# Altium integrated library Altera MAX 7000S.IntLib: 338 symbols (part 14 of 20)
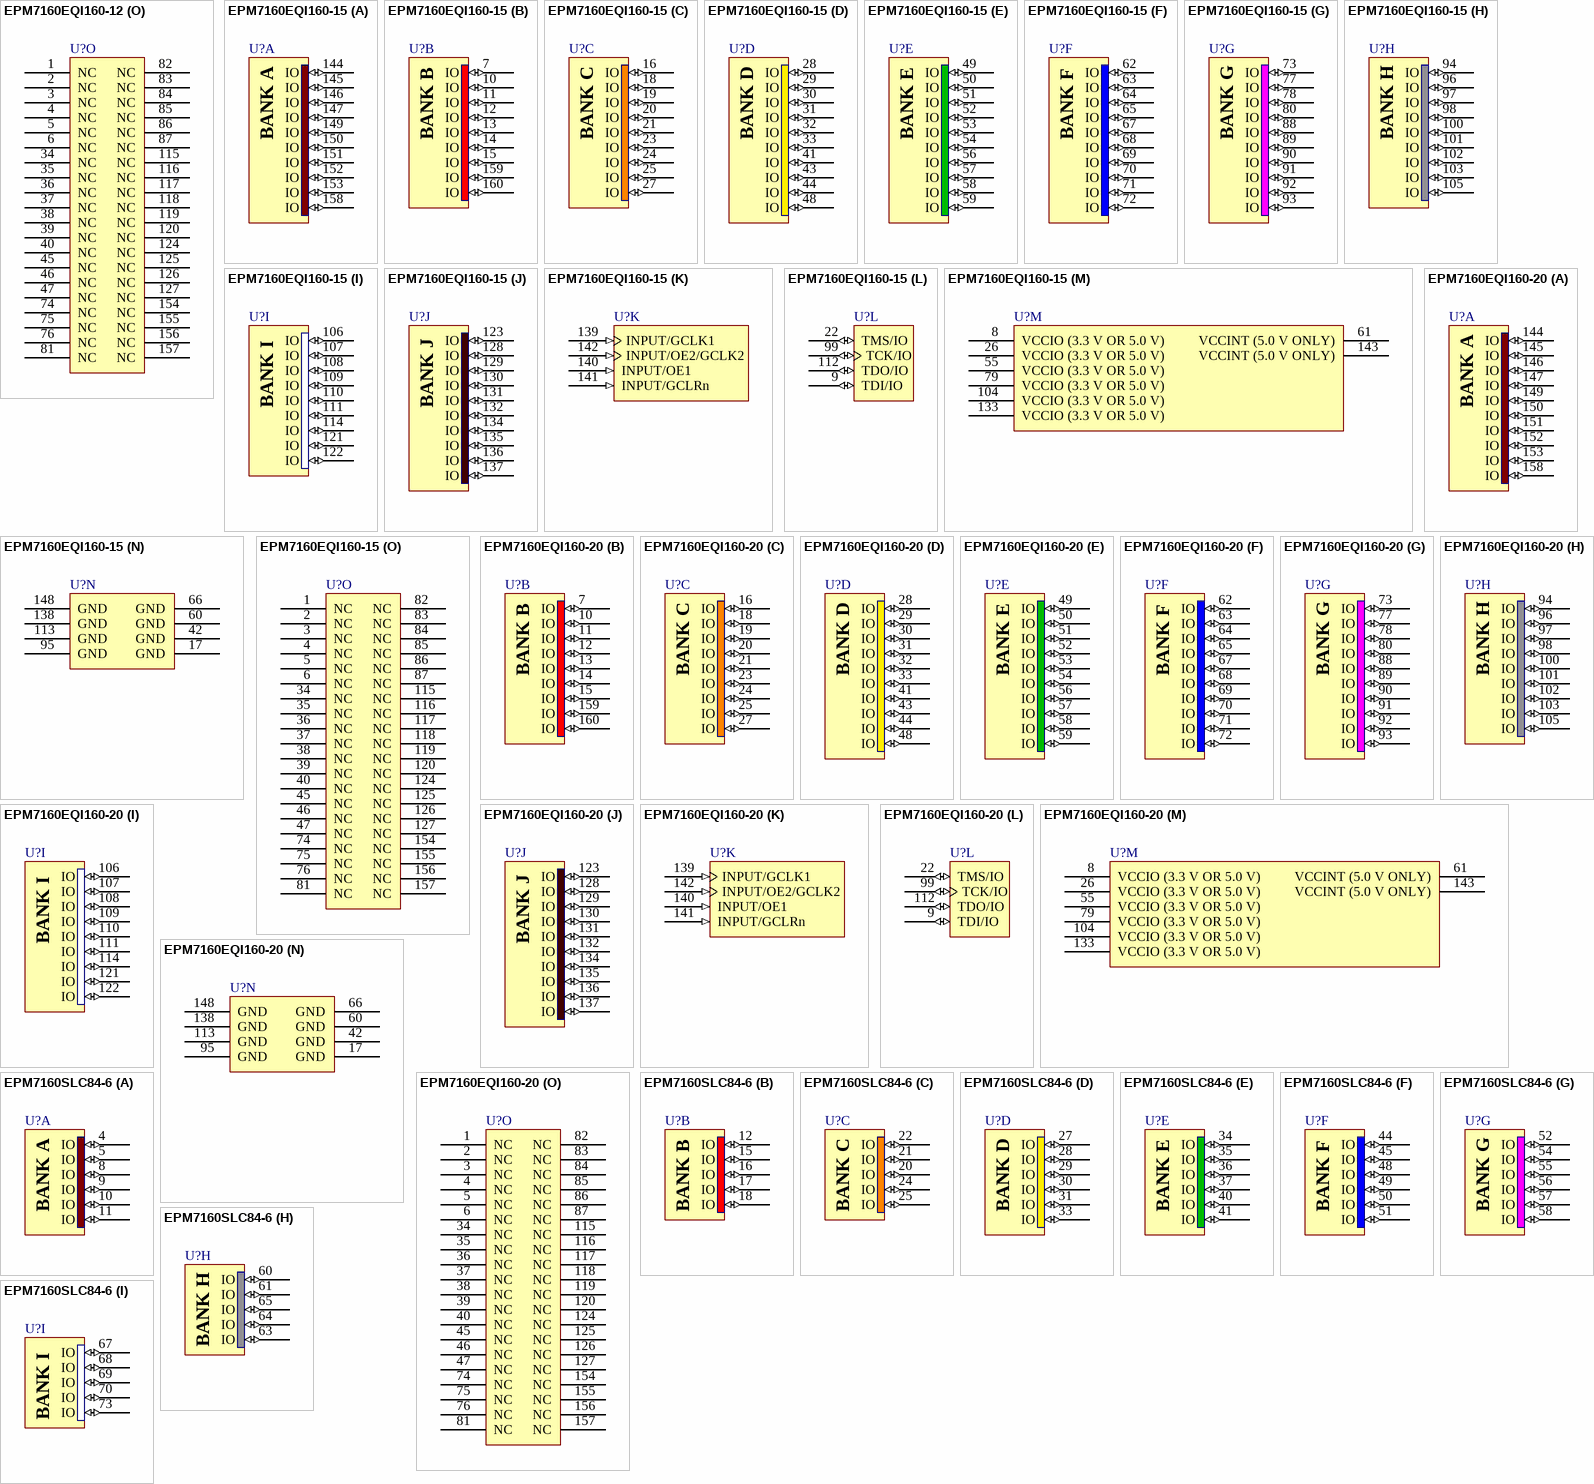
[diagram p117: symbols EPM7160EQI160-12 to EPM7160SLC84-6]

## EPM7160EQI160-15
designator U?
MAX 7000E 5V CPLD, 160 Macrocells, 160-Pin PQFP, Speed Grade 15, Industrial Grade; Published: 17-Jul-2002; LatestRevisionDate: 13-Apr-2006; LatestRevisionNote: IPC-7351 Footprint Added.; DatasheetVersion: ver6.7, Sep-2005; PackageVersion: ver14.3, Jul-2006; PackageReference: PQFP160; Publisher: Altium Limited; PackageDescription: 160-Pin Plastic Quad Flat Pack (PFQP160); Code_JEDEC: MS-022-DD-1; Code_IPC: QFP65P3120X3120-160; ComponentLink1Description: Manufacturer Link; ComponentLink1URL: http://www.altera.com/products/devices/max7k/m7k-index.html; ComponentLink2Description: Datasheet; ComponentLink2URL: http://www.altera.com/literature/ds/m7000.pdf; ComponentLink3Description: Packaging Specification; ComponentLink3URL: http://www.altera.com/literature/ds/dspkg.pdf
footprint PQFP160_N (QFP, 160-Leads, Body 28x28mm, Pitch 0.65mm, IPC Medium Density)
footprint PQFP160_L (QFP, 160-Leads, Body 28x28mm, Pitch 0.65mm, IPC High Density)
footprint PQFP160_M (QFP, 160-Leads, Body 28x28mm, Pitch 0.65mm, IPC Low Density)
3D model EPM7160E-PQFP160 (160-Pin Plastic Quad Flat Pack (PFQP160))
signal-integrity model 7k (MAX 7000S)
part A pins: 144 IO (io), 145 IO (io), 146 IO (io), 147 IO (io), 149 IO (io), 150 IO (io), 151 IO (io), 152 IO (io), 153 IO (io), 158 IO (io)
part B pins: 7 IO (io), 10 IO (io), 11 IO (io), 12 IO (io), 13 IO (io), 14 IO (io), 15 IO (io), 159 IO (io), 160 IO (io)
part C pins: 16 IO (io), 18 IO (io), 19 IO (io), 20 IO (io), 21 IO (io), 23 IO (io), 24 IO (io), 25 IO (io), 27 IO (io)
part D pins: 28 IO (io), 29 IO (io), 30 IO (io), 31 IO (io), 32 IO (io), 33 IO (io), 41 IO (io), 43 IO (io), 44 IO (io), 48 IO (io)
part E pins: 49 IO (io), 50 IO (io), 51 IO (io), 52 IO (io), 53 IO (io), 54 IO (io), 56 IO (io), 57 IO (io), 58 IO (io), 59 IO (io)
part F pins: 62 IO (io), 63 IO (io), 64 IO (io), 65 IO (io), 67 IO (io), 68 IO (io), 69 IO (io), 70 IO (io), 71 IO (io), 72 IO (io)
part G pins: 73 IO (io), 77 IO (io), 78 IO (io), 80 IO (io), 88 IO (io), 89 IO (io), 90 IO (io), 91 IO (io), 92 IO (io), 93 IO (io)
part H pins: 94 IO (io), 96 IO (io), 97 IO (io), 98 IO (io), 100 IO (io), 101 IO (io), 102 IO (io), 103 IO (io), 105 IO (io)
part I pins: 106 IO (io), 107 IO (io), 108 IO (io), 109 IO (io), 110 IO (io), 111 IO (io), 114 IO (io), 121 IO (io), 122 IO (io)
part J pins: 123 IO (io), 128 IO (io), 129 IO (io), 130 IO (io), 131 IO (io), 132 IO (io), 134 IO (io), 135 IO (io), 136 IO (io), 137 IO (io)
part K pins: 139 INPUT/GCLK1 (in), 140 INPUT/OE1 (in), 141 INPUT/GCLRn (in), 142 INPUT/OE2/GCLK2 (in)
part L pins: 9 TDI/IO (io), 22 TMS/IO (io), 99 TCK/IO (io), 112 TDO/IO (io)
part M pins: 8 VCCIO (3.3 V OR 5.0 V) (power), 26 VCCIO (3.3 V OR 5.0 V) (power), 55 VCCIO (3.3 V OR 5.0 V) (power), 61 VCCINT (5.0 V ONLY) (power), 79 VCCIO (3.3 V OR 5.0 V) (power), 104 VCCIO (3.3 V OR 5.0 V) (power), 133 VCCIO (3.3 V OR 5.0 V) (power), 143 VCCINT (5.0 V ONLY) (power)
part N pins: 17 GND (power), 42 GND (power), 60 GND (power), 66 GND (power), 95 GND (power), 113 GND (power), 138 GND (power), 148 GND (power)
part O pins: 1 NC, 2 NC, 3 NC, 4 NC, 5 NC, 6 NC, 34 NC, 35 NC, 36 NC, 37 NC, 38 NC, 39 NC, 40 NC, 45 NC, 46 NC, 47 NC, 74 NC, 75 NC, 76 NC, 81 NC, 82 NC, 83 NC, 84 NC, 85 NC, 86 NC, 87 NC, 115 NC, 116 NC, 117 NC, 118 NC, 119 NC, 120 NC, 124 NC, 125 NC, 126 NC, 127 NC, 154 NC, 155 NC, 156 NC, 157 NC
part A text: BANK A
part B text: BANK B
part C text: BANK C
part D text: BANK D
part E text: BANK E
part F text: BANK F
part G text: BANK G
part H text: BANK H
part I text: BANK I
part J text: BANK J

## EPM7160EQI160-20
designator U?
MAX 7000E 5V CPLD, 160 Macrocells, 160-Pin PQFP, Speed Grade 20, Industrial Grade; Published: 17-Sep-2003; LatestRevisionDate: 13-Apr-2006; LatestRevisionNote: IPC-7351 Footprint Added.; DatasheetVersion: ver6.7, Sep-2005; PackageVersion: ver14.3, Jul-2006; PackageReference: PQFP160; Publisher: Altium Limited; PackageDescription: 160-Pin Plastic Quad Flat Pack (PFQP160); Code_JEDEC: MS-022-DD-1; Code_IPC: QFP65P3120X3120-160; ComponentLink1Description: Manufacturer Link; ComponentLink1URL: http://www.altera.com/products/devices/max7k/m7k-index.html; ComponentLink2Description: Datasheet; ComponentLink2URL: http://www.altera.com/literature/ds/m7000.pdf; ComponentLink3Description: Packaging Specification; ComponentLink3URL: http://www.altera.com/literature/ds/dspkg.pdf
footprint PQFP160_N (QFP, 160-Leads, Body 28x28mm, Pitch 0.65mm, IPC Medium Density)
footprint PQFP160_L (QFP, 160-Leads, Body 28x28mm, Pitch 0.65mm, IPC High Density)
footprint PQFP160_M (QFP, 160-Leads, Body 28x28mm, Pitch 0.65mm, IPC Low Density)
3D model EPM7160E-PQFP160 (160-Pin Plastic Quad Flat Pack (PFQP160))
signal-integrity model 7k (MAX 7000S)
part A pins: 144 IO (io), 145 IO (io), 146 IO (io), 147 IO (io), 149 IO (io), 150 IO (io), 151 IO (io), 152 IO (io), 153 IO (io), 158 IO (io)
part B pins: 7 IO (io), 10 IO (io), 11 IO (io), 12 IO (io), 13 IO (io), 14 IO (io), 15 IO (io), 159 IO (io), 160 IO (io)
part C pins: 16 IO (io), 18 IO (io), 19 IO (io), 20 IO (io), 21 IO (io), 23 IO (io), 24 IO (io), 25 IO (io), 27 IO (io)
part D pins: 28 IO (io), 29 IO (io), 30 IO (io), 31 IO (io), 32 IO (io), 33 IO (io), 41 IO (io), 43 IO (io), 44 IO (io), 48 IO (io)
part E pins: 49 IO (io), 50 IO (io), 51 IO (io), 52 IO (io), 53 IO (io), 54 IO (io), 56 IO (io), 57 IO (io), 58 IO (io), 59 IO (io)
part F pins: 62 IO (io), 63 IO (io), 64 IO (io), 65 IO (io), 67 IO (io), 68 IO (io), 69 IO (io), 70 IO (io), 71 IO (io), 72 IO (io)
part G pins: 73 IO (io), 77 IO (io), 78 IO (io), 80 IO (io), 88 IO (io), 89 IO (io), 90 IO (io), 91 IO (io), 92 IO (io), 93 IO (io)
part H pins: 94 IO (io), 96 IO (io), 97 IO (io), 98 IO (io), 100 IO (io), 101 IO (io), 102 IO (io), 103 IO (io), 105 IO (io)
part I pins: 106 IO (io), 107 IO (io), 108 IO (io), 109 IO (io), 110 IO (io), 111 IO (io), 114 IO (io), 121 IO (io), 122 IO (io)
part J pins: 123 IO (io), 128 IO (io), 129 IO (io), 130 IO (io), 131 IO (io), 132 IO (io), 134 IO (io), 135 IO (io), 136 IO (io), 137 IO (io)
part K pins: 139 INPUT/GCLK1 (in), 140 INPUT/OE1 (in), 141 INPUT/GCLRn (in), 142 INPUT/OE2/GCLK2 (in)
part L pins: 9 TDI/IO (io), 22 TMS/IO (io), 99 TCK/IO (io), 112 TDO/IO (io)
part M pins: 8 VCCIO (3.3 V OR 5.0 V) (power), 26 VCCIO (3.3 V OR 5.0 V) (power), 55 VCCIO (3.3 V OR 5.0 V) (power), 61 VCCINT (5.0 V ONLY) (power), 79 VCCIO (3.3 V OR 5.0 V) (power), 104 VCCIO (3.3 V OR 5.0 V) (power), 133 VCCIO (3.3 V OR 5.0 V) (power), 143 VCCINT (5.0 V ONLY) (power)
part N pins: 17 GND (power), 42 GND (power), 60 GND (power), 66 GND (power), 95 GND (power), 113 GND (power), 138 GND (power), 148 GND (power)
part O pins: 1 NC, 2 NC, 3 NC, 4 NC, 5 NC, 6 NC, 34 NC, 35 NC, 36 NC, 37 NC, 38 NC, 39 NC, 40 NC, 45 NC, 46 NC, 47 NC, 74 NC, 75 NC, 76 NC, 81 NC, 82 NC, 83 NC, 84 NC, 85 NC, 86 NC, 87 NC, 115 NC, 116 NC, 117 NC, 118 NC, 119 NC, 120 NC, 124 NC, 125 NC, 126 NC, 127 NC, 154 NC, 155 NC, 156 NC, 157 NC
part A text: BANK A
part B text: BANK B
part C text: BANK C
part D text: BANK D
part E text: BANK E
part F text: BANK F
part G text: BANK G
part H text: BANK H
part I text: BANK I
part J text: BANK J

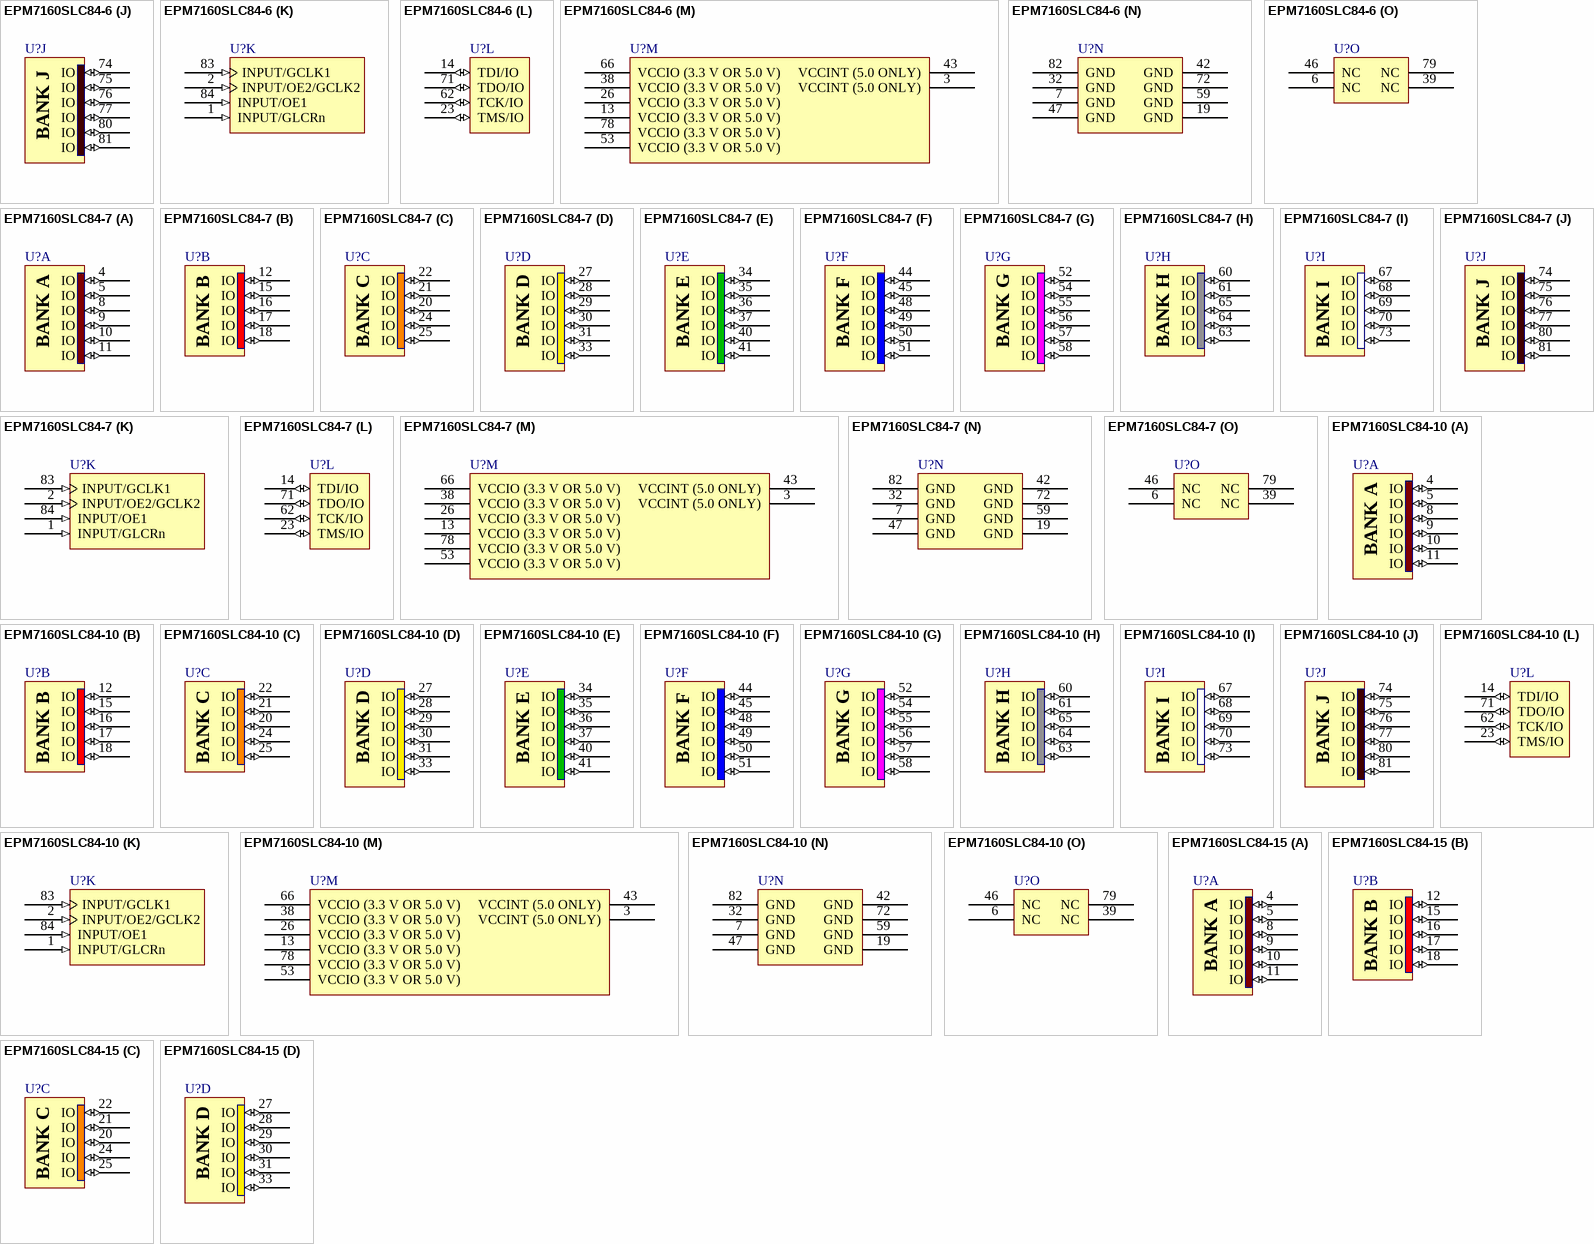
[diagram p68: symbols EPM7160SLC84-6 to EPM7160SLC84-15]

## EPM7160SLC84-6
designator U?
MAX 7000S 5V In-System Programmable CPLD, 160 Macrocells, 84-Pin PLCC, Speed Grade 6, Commercial Grade; Published: 17-Jul-2002; LatestRevisionDate: 13-Apr-2006; LatestRevisionNote: IPC-7351 Footprint Added.; DatasheetVersion: ver6.7, Sep-2005; PackageVersion: ver14.3, Jul-2006; PackageReference: PLCC84; Publisher: Altium Limited; PackageDescription: 84-Pin Plastic J-Lead Chip Carrier (PLCC84); Supplier 1: Digi-Key; Supplier Part Number 1: EPM7160SLC84-6-ND; Code_JEDEC: MS-018-AF; Code_IPC: PLCC-84; ComponentLink1Description: Manufacturer Link; ComponentLink1URL: http://www.altera.com/products/devices/max7k/m7k-index.html; ComponentLink2Description: Datasheet; ComponentLink2URL: http://www.altera.com/literature/ds/m7000.pdf; ComponentLink3Description: Packaging Specification; ComponentLink3URL: http://www.altera.com/literature/ds/dspkg.pdf
footprint PLCC84_N (Leaded Chip Carrier, 84-Leads, Body 29.3x29.3mm, Pitch 1.27mm, IPC Medium Density)
footprint PLCC84_L (Leaded Chip Carrier, 84-Leads, Body 29.3x29.3mm, Pitch 1.27mm, IPC High Density)
footprint PLCC84_M (Leaded Chip Carrier, 84-Leads, Body 29.3x29.3mm, Pitch 1.27mm, IPC Low Density)
3D model EPM7160S-PLCC84 (84-Pin Plastic J-Lead Chip Carrier (PLCC84))
signal-integrity model 7k (MAX 7000S)
part A pins: 4 IO (io), 5 IO (io), 8 IO (io), 9 IO (io), 10 IO (io), 11 IO (io)
part B pins: 12 IO (io), 15 IO (io), 16 IO (io), 17 IO (io), 18 IO (io)
part C pins: 20 IO (io), 21 IO (io), 22 IO (io), 24 IO (io), 25 IO (io)
part D pins: 27 IO (io), 28 IO (io), 29 IO (io), 30 IO (io), 31 IO (io), 33 IO (io)
part E pins: 34 IO (io), 35 IO (io), 36 IO (io), 37 IO (io), 40 IO (io), 41 IO (io)
part F pins: 44 IO (io), 45 IO (io), 48 IO (io), 49 IO (io), 50 IO (io), 51 IO (io)
part G pins: 52 IO (io), 54 IO (io), 55 IO (io), 56 IO (io), 57 IO (io), 58 IO (io)
part H pins: 60 IO (io), 61 IO (io), 63 IO (io), 64 IO (io), 65 IO (io)
part I pins: 67 IO (io), 68 IO (io), 69 IO (io), 70 IO (io), 73 IO (io)
part J pins: 74 IO (io), 75 IO (io), 76 IO (io), 77 IO (io), 80 IO (io), 81 IO (io)
part K pins: 1 INPUT/GLCRn (in), 2 INPUT/OE2/GCLK2 (in), 83 INPUT/GCLK1 (in), 84 INPUT/OE1 (in)
part L pins: 14 TDI/IO (io), 23 TMS/IO (io), 62 TCK/IO (io), 71 TDO/IO (io)
part M pins: 3 VCCINT (5.0 ONLY) (power), 13 VCCIO (3.3 V OR 5.0 V) (power), 26 VCCIO (3.3 V OR 5.0 V) (power), 38 VCCIO (3.3 V OR 5.0 V) (power), 43 VCCINT (5.0 ONLY) (power), 53 VCCIO (3.3 V OR 5.0 V) (power), 66 VCCIO (3.3 V OR 5.0 V) (power), 78 VCCIO (3.3 V OR 5.0 V) (power)
part N pins: 7 GND (power), 19 GND (power), 32 GND (power), 42 GND (power), 47 GND (power), 59 GND (power), 72 GND (power), 82 GND (power)
part O pins: 6 NC, 39 NC, 46 NC, 79 NC
part A text: BANK A
part B text: BANK B
part C text: BANK C
part D text: BANK D
part E text: BANK E
part F text: BANK F
part G text: BANK G
part H text: BANK H
part I text: BANK I
part J text: BANK J

## EPM7160SLC84-7
designator U?
MAX 7000S 5V In-System Programmable CPLD, 160 Macrocells, 84-Pin PLCC, Speed Grade 7, Commercial Grade; Published: 24-Nov-2000; LatestRevisionDate: 13-Apr-2006; LatestRevisionNote: IPC-7351 Footprint Added.; DatasheetVersion: ver6.7, Sep-2005; PackageVersion: ver14.3, Jul-2006; PackageReference: PLCC84; Publisher: Altium Limited; PackageDescription: 84-Pin Plastic J-Lead Chip Carrier (PLCC84); Supplier 1: Digi-Key; Supplier Part Number 1: 544-2047-5-ND; Code_JEDEC: MS-018-AF; Code_IPC: PLCC-84; ComponentLink1Description: Manufacturer Link; ComponentLink1URL: http://www.altera.com/products/devices/max7k/m7k-index.html; ComponentLink2Description: Datasheet; ComponentLink2URL: http://www.altera.com/literature/ds/m7000.pdf; ComponentLink3Description: Packaging Specification; ComponentLink3URL: http://www.altera.com/literature/ds/dspkg.pdf
footprint PLCC84_N (Leaded Chip Carrier, 84-Leads, Body 29.3x29.3mm, Pitch 1.27mm, IPC Medium Density)
footprint PLCC84_L (Leaded Chip Carrier, 84-Leads, Body 29.3x29.3mm, Pitch 1.27mm, IPC High Density)
footprint PLCC84_M (Leaded Chip Carrier, 84-Leads, Body 29.3x29.3mm, Pitch 1.27mm, IPC Low Density)
3D model EPM7160S-PLCC84 (84-Pin Plastic J-Lead Chip Carrier (PLCC84))
signal-integrity model 7k (MAX 7000S)
part A pins: 4 IO (io), 5 IO (io), 8 IO (io), 9 IO (io), 10 IO (io), 11 IO (io)
part B pins: 12 IO (io), 15 IO (io), 16 IO (io), 17 IO (io), 18 IO (io)
part C pins: 20 IO (io), 21 IO (io), 22 IO (io), 24 IO (io), 25 IO (io)
part D pins: 27 IO (io), 28 IO (io), 29 IO (io), 30 IO (io), 31 IO (io), 33 IO (io)
part E pins: 34 IO (io), 35 IO (io), 36 IO (io), 37 IO (io), 40 IO (io), 41 IO (io)
part F pins: 44 IO (io), 45 IO (io), 48 IO (io), 49 IO (io), 50 IO (io), 51 IO (io)
part G pins: 52 IO (io), 54 IO (io), 55 IO (io), 56 IO (io), 57 IO (io), 58 IO (io)
part H pins: 60 IO (io), 61 IO (io), 63 IO (io), 64 IO (io), 65 IO (io)
part I pins: 67 IO (io), 68 IO (io), 69 IO (io), 70 IO (io), 73 IO (io)
part J pins: 74 IO (io), 75 IO (io), 76 IO (io), 77 IO (io), 80 IO (io), 81 IO (io)
part K pins: 1 INPUT/GLCRn (in), 2 INPUT/OE2/GCLK2 (in), 83 INPUT/GCLK1 (in), 84 INPUT/OE1 (in)
part L pins: 14 TDI/IO (io), 23 TMS/IO (io), 62 TCK/IO (io), 71 TDO/IO (io)
part M pins: 3 VCCINT (5.0 ONLY) (power), 13 VCCIO (3.3 V OR 5.0 V) (power), 26 VCCIO (3.3 V OR 5.0 V) (power), 38 VCCIO (3.3 V OR 5.0 V) (power), 43 VCCINT (5.0 ONLY) (power), 53 VCCIO (3.3 V OR 5.0 V) (power), 66 VCCIO (3.3 V OR 5.0 V) (power), 78 VCCIO (3.3 V OR 5.0 V) (power)
part N pins: 7 GND (power), 19 GND (power), 32 GND (power), 42 GND (power), 47 GND (power), 59 GND (power), 72 GND (power), 82 GND (power)
part O pins: 6 NC, 39 NC, 46 NC, 79 NC
part A text: BANK A
part B text: BANK B
part C text: BANK C
part D text: BANK D
part E text: BANK E
part F text: BANK F
part G text: BANK G
part H text: BANK H
part I text: BANK I
part J text: BANK J

## EPM7160SLC84-10
designator U?
MAX 7000S 5V In-System Programmable CPLD, 160 Macrocells, 84-Pin PLCC, Speed Grade 10, Commercial Grade; Published: 24-Nov-2000; LatestRevisionDate: 13-Apr-2006; LatestRevisionNote: IPC-7351 Footprint Added.; DatasheetVersion: ver6.7, Sep-2005; PackageVersion: ver14.3, Jul-2006; PackageReference: PLCC84; Publisher: Altium Limited; PackageDescription: 84-Pin Plastic J-Lead Chip Carrier (PLCC84); Supplier 1: Digi-Key; Supplier Part Number 1: 544-1213-5-ND; Code_JEDEC: MS-018-AF; Code_IPC: PLCC-84; ComponentLink1Description: Manufacturer Link; ComponentLink1URL: http://www.altera.com/products/devices/max7k/m7k-index.html; ComponentLink2Description: Datasheet; ComponentLink2URL: http://www.altera.com/literature/ds/m7000.pdf; ComponentLink3Description: Packaging Specification; ComponentLink3URL: http://www.altera.com/literature/ds/dspkg.pdf
footprint PLCC84_N (Leaded Chip Carrier, 84-Leads, Body 29.3x29.3mm, Pitch 1.27mm, IPC Medium Density)
footprint PLCC84_L (Leaded Chip Carrier, 84-Leads, Body 29.3x29.3mm, Pitch 1.27mm, IPC High Density)
footprint PLCC84_M (Leaded Chip Carrier, 84-Leads, Body 29.3x29.3mm, Pitch 1.27mm, IPC Low Density)
3D model EPM7160S-PLCC84 (84-Pin Plastic J-Lead Chip Carrier (PLCC84))
signal-integrity model 7k (MAX 7000S)
part A pins: 4 IO (io), 5 IO (io), 8 IO (io), 9 IO (io), 10 IO (io), 11 IO (io)
part B pins: 12 IO (io), 15 IO (io), 16 IO (io), 17 IO (io), 18 IO (io)
part C pins: 20 IO (io), 21 IO (io), 22 IO (io), 24 IO (io), 25 IO (io)
part D pins: 27 IO (io), 28 IO (io), 29 IO (io), 30 IO (io), 31 IO (io), 33 IO (io)
part E pins: 34 IO (io), 35 IO (io), 36 IO (io), 37 IO (io), 40 IO (io), 41 IO (io)
part F pins: 44 IO (io), 45 IO (io), 48 IO (io), 49 IO (io), 50 IO (io), 51 IO (io)
part G pins: 52 IO (io), 54 IO (io), 55 IO (io), 56 IO (io), 57 IO (io), 58 IO (io)
part H pins: 60 IO (io), 61 IO (io), 63 IO (io), 64 IO (io), 65 IO (io)
part I pins: 67 IO (io), 68 IO (io), 69 IO (io), 70 IO (io), 73 IO (io)
part J pins: 74 IO (io), 75 IO (io), 76 IO (io), 77 IO (io), 80 IO (io), 81 IO (io)
part K pins: 1 INPUT/GLCRn (in), 2 INPUT/OE2/GCLK2 (in), 83 INPUT/GCLK1 (in), 84 INPUT/OE1 (in)
part L pins: 14 TDI/IO (io), 23 TMS/IO (io), 62 TCK/IO (io), 71 TDO/IO (io)
part M pins: 3 VCCINT (5.0 ONLY) (power), 13 VCCIO (3.3 V OR 5.0 V) (power), 26 VCCIO (3.3 V OR 5.0 V) (power), 38 VCCIO (3.3 V OR 5.0 V) (power), 43 VCCINT (5.0 ONLY) (power), 53 VCCIO (3.3 V OR 5.0 V) (power), 66 VCCIO (3.3 V OR 5.0 V) (power), 78 VCCIO (3.3 V OR 5.0 V) (power)
part N pins: 7 GND (power), 19 GND (power), 32 GND (power), 42 GND (power), 47 GND (power), 59 GND (power), 72 GND (power), 82 GND (power)
part O pins: 6 NC, 39 NC, 46 NC, 79 NC
part A text: BANK A
part B text: BANK B
part C text: BANK C
part D text: BANK D
part E text: BANK E
part F text: BANK F
part G text: BANK G
part H text: BANK H
part I text: BANK I
part J text: BANK J

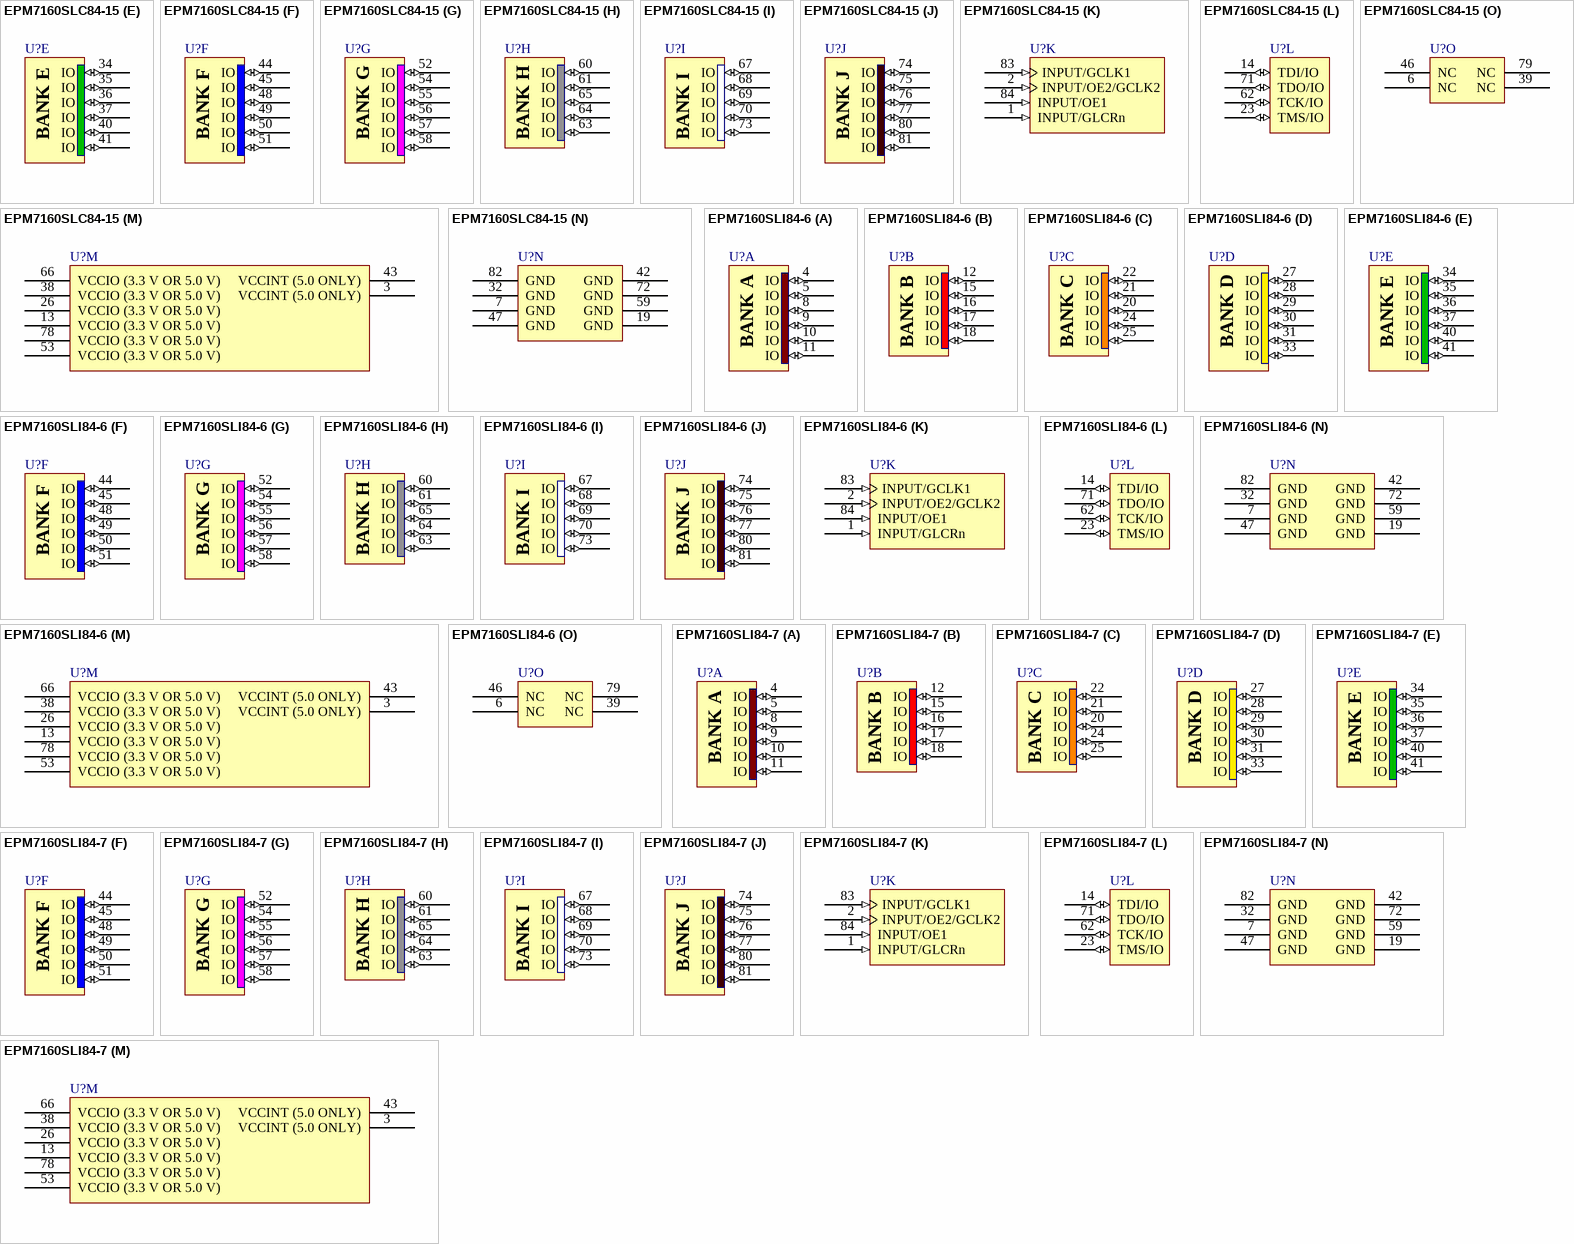
[diagram p69: symbols EPM7160SLC84-15 to EPM7160SLI84-7]

## EPM7160SLC84-15
designator U?
MAX 7000S 5V In-System Programmable CPLD, 160 Macrocells, 84-Pin PLCC, Speed Grade 15, Commercial Grade; Published: 24-Nov-2000; LatestRevisionDate: 13-Apr-2006; LatestRevisionNote: IPC-7351 Footprint Added.; DatasheetVersion: ver6.7, Sep-2005; PackageVersion: ver14.3, Jul-2006; PackageReference: PLCC84; Publisher: Altium Limited; PackageDescription: 84-Pin Plastic J-Lead Chip Carrier (PLCC84); Code_JEDEC: MS-018-AF; Code_IPC: PLCC-84; ComponentLink1Description: Manufacturer Link; ComponentLink1URL: http://www.altera.com/products/devices/max7k/m7k-index.html; ComponentLink2Description: Datasheet; ComponentLink2URL: http://www.altera.com/literature/ds/m7000.pdf; ComponentLink3Description: Packaging Specification; ComponentLink3URL: http://www.altera.com/literature/ds/dspkg.pdf
footprint PLCC84_N (Leaded Chip Carrier, 84-Leads, Body 29.3x29.3mm, Pitch 1.27mm, IPC Medium Density)
footprint PLCC84_L (Leaded Chip Carrier, 84-Leads, Body 29.3x29.3mm, Pitch 1.27mm, IPC High Density)
footprint PLCC84_M (Leaded Chip Carrier, 84-Leads, Body 29.3x29.3mm, Pitch 1.27mm, IPC Low Density)
3D model EPM7160S-PLCC84 (84-Pin Plastic J-Lead Chip Carrier (PLCC84))
signal-integrity model 7k (MAX 7000S)
part A pins: 4 IO (io), 5 IO (io), 8 IO (io), 9 IO (io), 10 IO (io), 11 IO (io)
part B pins: 12 IO (io), 15 IO (io), 16 IO (io), 17 IO (io), 18 IO (io)
part C pins: 20 IO (io), 21 IO (io), 22 IO (io), 24 IO (io), 25 IO (io)
part D pins: 27 IO (io), 28 IO (io), 29 IO (io), 30 IO (io), 31 IO (io), 33 IO (io)
part E pins: 34 IO (io), 35 IO (io), 36 IO (io), 37 IO (io), 40 IO (io), 41 IO (io)
part F pins: 44 IO (io), 45 IO (io), 48 IO (io), 49 IO (io), 50 IO (io), 51 IO (io)
part G pins: 52 IO (io), 54 IO (io), 55 IO (io), 56 IO (io), 57 IO (io), 58 IO (io)
part H pins: 60 IO (io), 61 IO (io), 63 IO (io), 64 IO (io), 65 IO (io)
part I pins: 67 IO (io), 68 IO (io), 69 IO (io), 70 IO (io), 73 IO (io)
part J pins: 74 IO (io), 75 IO (io), 76 IO (io), 77 IO (io), 80 IO (io), 81 IO (io)
part K pins: 1 INPUT/GLCRn (in), 2 INPUT/OE2/GCLK2 (in), 83 INPUT/GCLK1 (in), 84 INPUT/OE1 (in)
part L pins: 14 TDI/IO (io), 23 TMS/IO (io), 62 TCK/IO (io), 71 TDO/IO (io)
part M pins: 3 VCCINT (5.0 ONLY) (power), 13 VCCIO (3.3 V OR 5.0 V) (power), 26 VCCIO (3.3 V OR 5.0 V) (power), 38 VCCIO (3.3 V OR 5.0 V) (power), 43 VCCINT (5.0 ONLY) (power), 53 VCCIO (3.3 V OR 5.0 V) (power), 66 VCCIO (3.3 V OR 5.0 V) (power), 78 VCCIO (3.3 V OR 5.0 V) (power)
part N pins: 7 GND (power), 19 GND (power), 32 GND (power), 42 GND (power), 47 GND (power), 59 GND (power), 72 GND (power), 82 GND (power)
part O pins: 6 NC, 39 NC, 46 NC, 79 NC
part A text: BANK A
part B text: BANK B
part C text: BANK C
part D text: BANK D
part E text: BANK E
part F text: BANK F
part G text: BANK G
part H text: BANK H
part I text: BANK I
part J text: BANK J

## EPM7160SLI84-6
designator U?
MAX 7000S 5V In-System Programmable CPLD, 160 Macrocells, 84-Pin PLCC, Speed Grade 6, Industrial Grade; Published: 17-Sep-2003; LatestRevisionDate: 13-Apr-2006; LatestRevisionNote: IPC-7351 Footprint Added.; DatasheetVersion: ver6.7, Sep-2005; PackageVersion: ver14.3, Jul-2006; PackageReference: PLCC84; Publisher: Altium Limited; PackageDescription: 84-Pin Plastic J-Lead Chip Carrier (PLCC84); Code_JEDEC: MS-018-AF; Code_IPC: PLCC-84; ComponentLink1Description: Manufacturer Link; ComponentLink1URL: http://www.altera.com/products/devices/max7k/m7k-index.html; ComponentLink2Description: Datasheet; ComponentLink2URL: http://www.altera.com/literature/ds/m7000.pdf; ComponentLink3Description: Packaging Specification; ComponentLink3URL: http://www.altera.com/literature/ds/dspkg.pdf
footprint PLCC84_N (Leaded Chip Carrier, 84-Leads, Body 29.3x29.3mm, Pitch 1.27mm, IPC Medium Density)
footprint PLCC84_L (Leaded Chip Carrier, 84-Leads, Body 29.3x29.3mm, Pitch 1.27mm, IPC High Density)
footprint PLCC84_M (Leaded Chip Carrier, 84-Leads, Body 29.3x29.3mm, Pitch 1.27mm, IPC Low Density)
3D model EPM7160S-PLCC84 (84-Pin Plastic J-Lead Chip Carrier (PLCC84))
signal-integrity model 7k (MAX 7000S)
part A pins: 4 IO (io), 5 IO (io), 8 IO (io), 9 IO (io), 10 IO (io), 11 IO (io)
part B pins: 12 IO (io), 15 IO (io), 16 IO (io), 17 IO (io), 18 IO (io)
part C pins: 20 IO (io), 21 IO (io), 22 IO (io), 24 IO (io), 25 IO (io)
part D pins: 27 IO (io), 28 IO (io), 29 IO (io), 30 IO (io), 31 IO (io), 33 IO (io)
part E pins: 34 IO (io), 35 IO (io), 36 IO (io), 37 IO (io), 40 IO (io), 41 IO (io)
part F pins: 44 IO (io), 45 IO (io), 48 IO (io), 49 IO (io), 50 IO (io), 51 IO (io)
part G pins: 52 IO (io), 54 IO (io), 55 IO (io), 56 IO (io), 57 IO (io), 58 IO (io)
part H pins: 60 IO (io), 61 IO (io), 63 IO (io), 64 IO (io), 65 IO (io)
part I pins: 67 IO (io), 68 IO (io), 69 IO (io), 70 IO (io), 73 IO (io)
part J pins: 74 IO (io), 75 IO (io), 76 IO (io), 77 IO (io), 80 IO (io), 81 IO (io)
part K pins: 1 INPUT/GLCRn (in), 2 INPUT/OE2/GCLK2 (in), 83 INPUT/GCLK1 (in), 84 INPUT/OE1 (in)
part L pins: 14 TDI/IO (io), 23 TMS/IO (io), 62 TCK/IO (io), 71 TDO/IO (io)
part M pins: 3 VCCINT (5.0 ONLY) (power), 13 VCCIO (3.3 V OR 5.0 V) (power), 26 VCCIO (3.3 V OR 5.0 V) (power), 38 VCCIO (3.3 V OR 5.0 V) (power), 43 VCCINT (5.0 ONLY) (power), 53 VCCIO (3.3 V OR 5.0 V) (power), 66 VCCIO (3.3 V OR 5.0 V) (power), 78 VCCIO (3.3 V OR 5.0 V) (power)
part N pins: 7 GND (power), 19 GND (power), 32 GND (power), 42 GND (power), 47 GND (power), 59 GND (power), 72 GND (power), 82 GND (power)
part O pins: 6 NC, 39 NC, 46 NC, 79 NC
part A text: BANK A
part B text: BANK B
part C text: BANK C
part D text: BANK D
part E text: BANK E
part F text: BANK F
part G text: BANK G
part H text: BANK H
part I text: BANK I
part J text: BANK J

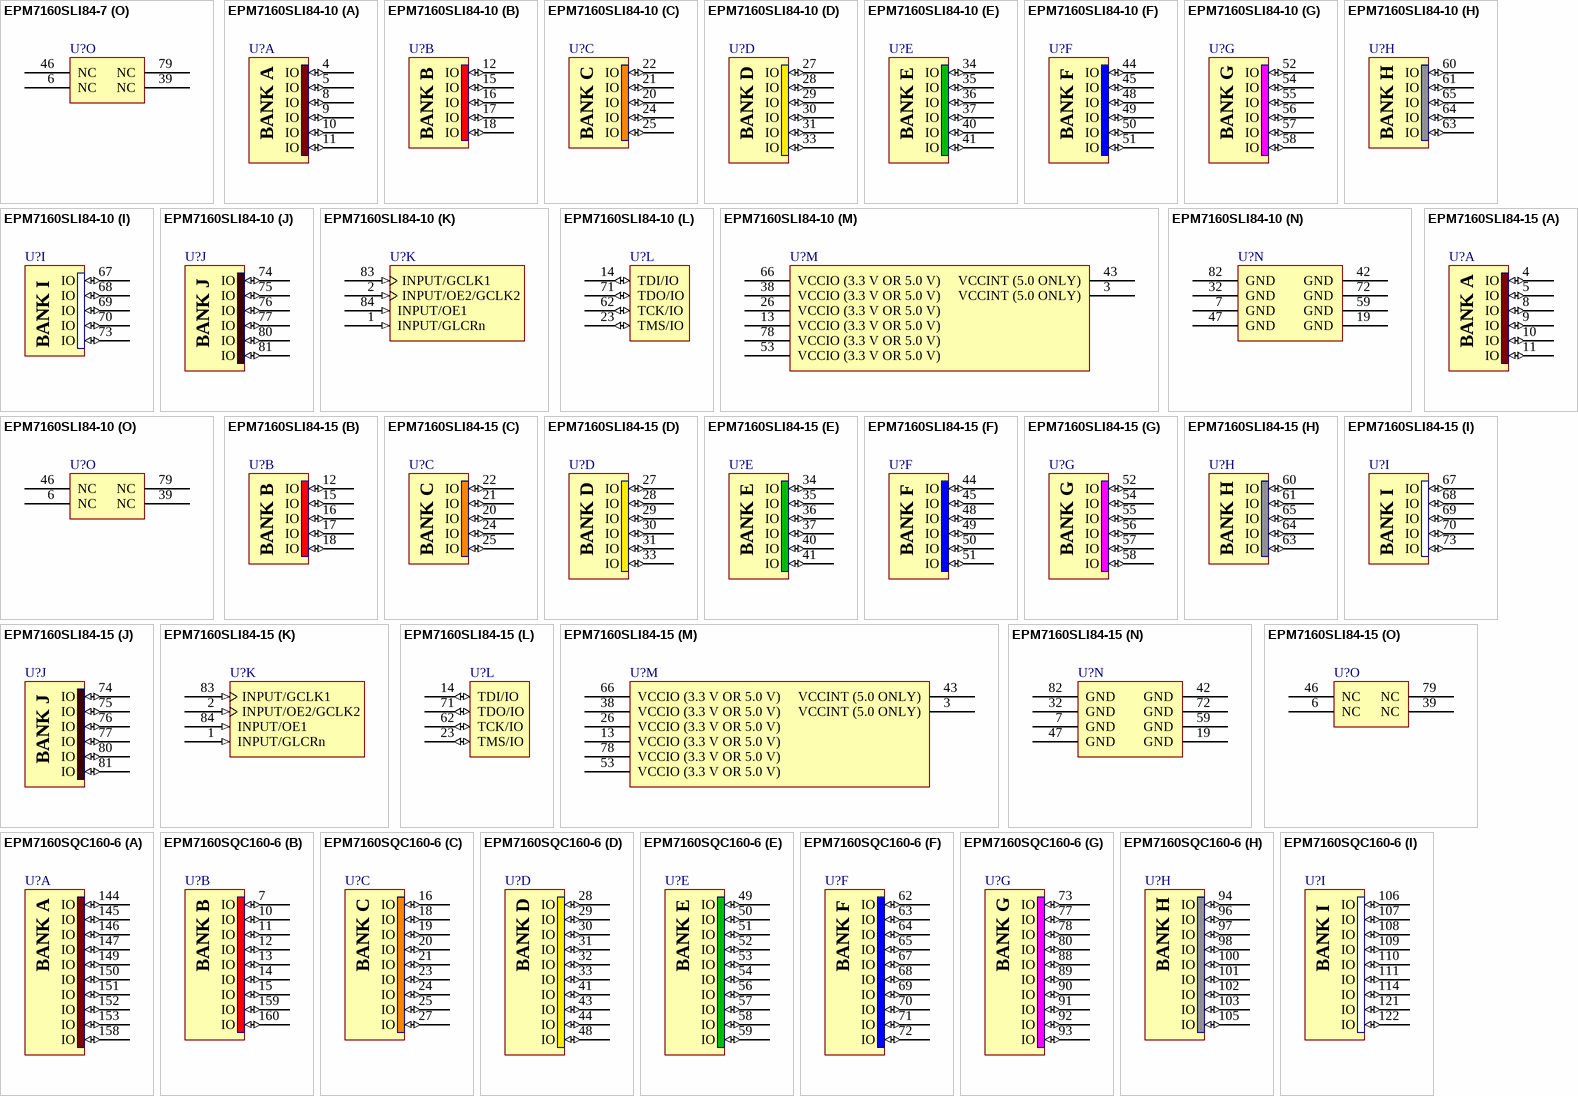
[diagram p70: symbols EPM7160SLI84-7 to EPM7160SQC160-6]

## EPM7160SLI84-7
designator U?
MAX 7000S 5V In-System Programmable CPLD, 160 Macrocells, 84-Pin PLCC, Speed Grade 7, Industrial Grade; Published: 17-Sep-2003; LatestRevisionDate: 13-Apr-2006; LatestRevisionNote: IPC-7351 Footprint Added.; DatasheetVersion: ver6.7, Sep-2005; PackageVersion: ver14.3, Jul-2006; PackageReference: PLCC84; Publisher: Altium Limited; PackageDescription: 84-Pin Plastic J-Lead Chip Carrier (PLCC84); Code_JEDEC: MS-018-AF; Code_IPC: PLCC-84; ComponentLink1Description: Manufacturer Link; ComponentLink1URL: http://www.altera.com/products/devices/max7k/m7k-index.html; ComponentLink2Description: Datasheet; ComponentLink2URL: http://www.altera.com/literature/ds/m7000.pdf; ComponentLink3Description: Packaging Specification; ComponentLink3URL: http://www.altera.com/literature/ds/dspkg.pdf
footprint PLCC84_N (Leaded Chip Carrier, 84-Leads, Body 29.3x29.3mm, Pitch 1.27mm, IPC Medium Density)
footprint PLCC84_L (Leaded Chip Carrier, 84-Leads, Body 29.3x29.3mm, Pitch 1.27mm, IPC High Density)
footprint PLCC84_M (Leaded Chip Carrier, 84-Leads, Body 29.3x29.3mm, Pitch 1.27mm, IPC Low Density)
3D model EPM7160S-PLCC84 (84-Pin Plastic J-Lead Chip Carrier (PLCC84))
signal-integrity model 7k (MAX 7000S)
part A pins: 4 IO (io), 5 IO (io), 8 IO (io), 9 IO (io), 10 IO (io), 11 IO (io)
part B pins: 12 IO (io), 15 IO (io), 16 IO (io), 17 IO (io), 18 IO (io)
part C pins: 20 IO (io), 21 IO (io), 22 IO (io), 24 IO (io), 25 IO (io)
part D pins: 27 IO (io), 28 IO (io), 29 IO (io), 30 IO (io), 31 IO (io), 33 IO (io)
part E pins: 34 IO (io), 35 IO (io), 36 IO (io), 37 IO (io), 40 IO (io), 41 IO (io)
part F pins: 44 IO (io), 45 IO (io), 48 IO (io), 49 IO (io), 50 IO (io), 51 IO (io)
part G pins: 52 IO (io), 54 IO (io), 55 IO (io), 56 IO (io), 57 IO (io), 58 IO (io)
part H pins: 60 IO (io), 61 IO (io), 63 IO (io), 64 IO (io), 65 IO (io)
part I pins: 67 IO (io), 68 IO (io), 69 IO (io), 70 IO (io), 73 IO (io)
part J pins: 74 IO (io), 75 IO (io), 76 IO (io), 77 IO (io), 80 IO (io), 81 IO (io)
part K pins: 1 INPUT/GLCRn (in), 2 INPUT/OE2/GCLK2 (in), 83 INPUT/GCLK1 (in), 84 INPUT/OE1 (in)
part L pins: 14 TDI/IO (io), 23 TMS/IO (io), 62 TCK/IO (io), 71 TDO/IO (io)
part M pins: 3 VCCINT (5.0 ONLY) (power), 13 VCCIO (3.3 V OR 5.0 V) (power), 26 VCCIO (3.3 V OR 5.0 V) (power), 38 VCCIO (3.3 V OR 5.0 V) (power), 43 VCCINT (5.0 ONLY) (power), 53 VCCIO (3.3 V OR 5.0 V) (power), 66 VCCIO (3.3 V OR 5.0 V) (power), 78 VCCIO (3.3 V OR 5.0 V) (power)
part N pins: 7 GND (power), 19 GND (power), 32 GND (power), 42 GND (power), 47 GND (power), 59 GND (power), 72 GND (power), 82 GND (power)
part O pins: 6 NC, 39 NC, 46 NC, 79 NC
part A text: BANK A
part B text: BANK B
part C text: BANK C
part D text: BANK D
part E text: BANK E
part F text: BANK F
part G text: BANK G
part H text: BANK H
part I text: BANK I
part J text: BANK J

## EPM7160SLI84-10
designator U?
MAX 7000S 5V In-System Programmable CPLD, 160 Macrocells, 84-Pin PLCC, Speed Grade 10, Industrial Grade; Published: 24-Nov-2000; LatestRevisionDate: 13-Apr-2006; LatestRevisionNote: IPC-7351 Footprint Added.; DatasheetVersion: ver6.7, Sep-2005; PackageVersion: ver14.3, Jul-2006; PackageReference: PLCC84; Publisher: Altium Limited; PackageDescription: 84-Pin Plastic J-Lead Chip Carrier (PLCC84); Supplier 1: Digi-Key; Supplier Part Number 1: 544-2048-ND; Code_JEDEC: MS-018-AF; Code_IPC: PLCC-84; ComponentLink1Description: Manufacturer Link; ComponentLink1URL: http://www.altera.com/products/devices/max7k/m7k-index.html; ComponentLink2Description: Datasheet; ComponentLink2URL: http://www.altera.com/literature/ds/m7000.pdf; ComponentLink3Description: Packaging Specification; ComponentLink3URL: http://www.altera.com/literature/ds/dspkg.pdf
footprint PLCC84_N (Leaded Chip Carrier, 84-Leads, Body 29.3x29.3mm, Pitch 1.27mm, IPC Medium Density)
footprint PLCC84_L (Leaded Chip Carrier, 84-Leads, Body 29.3x29.3mm, Pitch 1.27mm, IPC High Density)
footprint PLCC84_M (Leaded Chip Carrier, 84-Leads, Body 29.3x29.3mm, Pitch 1.27mm, IPC Low Density)
3D model EPM7160S-PLCC84 (84-Pin Plastic J-Lead Chip Carrier (PLCC84))
signal-integrity model 7k (MAX 7000S)
part A pins: 4 IO (io), 5 IO (io), 8 IO (io), 9 IO (io), 10 IO (io), 11 IO (io)
part B pins: 12 IO (io), 15 IO (io), 16 IO (io), 17 IO (io), 18 IO (io)
part C pins: 20 IO (io), 21 IO (io), 22 IO (io), 24 IO (io), 25 IO (io)
part D pins: 27 IO (io), 28 IO (io), 29 IO (io), 30 IO (io), 31 IO (io), 33 IO (io)
part E pins: 34 IO (io), 35 IO (io), 36 IO (io), 37 IO (io), 40 IO (io), 41 IO (io)
part F pins: 44 IO (io), 45 IO (io), 48 IO (io), 49 IO (io), 50 IO (io), 51 IO (io)
part G pins: 52 IO (io), 54 IO (io), 55 IO (io), 56 IO (io), 57 IO (io), 58 IO (io)
part H pins: 60 IO (io), 61 IO (io), 63 IO (io), 64 IO (io), 65 IO (io)
part I pins: 67 IO (io), 68 IO (io), 69 IO (io), 70 IO (io), 73 IO (io)
part J pins: 74 IO (io), 75 IO (io), 76 IO (io), 77 IO (io), 80 IO (io), 81 IO (io)
part K pins: 1 INPUT/GLCRn (in), 2 INPUT/OE2/GCLK2 (in), 83 INPUT/GCLK1 (in), 84 INPUT/OE1 (in)
part L pins: 14 TDI/IO (io), 23 TMS/IO (io), 62 TCK/IO (io), 71 TDO/IO (io)
part M pins: 3 VCCINT (5.0 ONLY) (power), 13 VCCIO (3.3 V OR 5.0 V) (power), 26 VCCIO (3.3 V OR 5.0 V) (power), 38 VCCIO (3.3 V OR 5.0 V) (power), 43 VCCINT (5.0 ONLY) (power), 53 VCCIO (3.3 V OR 5.0 V) (power), 66 VCCIO (3.3 V OR 5.0 V) (power), 78 VCCIO (3.3 V OR 5.0 V) (power)
part N pins: 7 GND (power), 19 GND (power), 32 GND (power), 42 GND (power), 47 GND (power), 59 GND (power), 72 GND (power), 82 GND (power)
part O pins: 6 NC, 39 NC, 46 NC, 79 NC
part A text: BANK A
part B text: BANK B
part C text: BANK C
part D text: BANK D
part E text: BANK E
part F text: BANK F
part G text: BANK G
part H text: BANK H
part I text: BANK I
part J text: BANK J

## EPM7160SLI84-15
designator U?
MAX 7000S 5V In-System Programmable CPLD, 160 Macrocells, 84-Pin PLCC, Speed Grade 15, Industrial Grade; Published: 24-Nov-2000; LatestRevisionDate: 13-Apr-2006; LatestRevisionNote: IPC-7351 Footprint Added.; DatasheetVersion: ver6.7, Sep-2005; PackageVersion: ver14.3, Jul-2006; PackageReference: PLCC84; Publisher: Altium Limited; PackageDescription: 84-Pin Plastic J-Lead Chip Carrier (PLCC84); Code_JEDEC: MS-018-AF; Code_IPC: PLCC-84; ComponentLink1Description: Manufacturer Link; ComponentLink1URL: http://www.altera.com/products/devices/max7k/m7k-index.html; ComponentLink2Description: Datasheet; ComponentLink2URL: http://www.altera.com/literature/ds/m7000.pdf; ComponentLink3Description: Packaging Specification; ComponentLink3URL: http://www.altera.com/literature/ds/dspkg.pdf
footprint PLCC84_N (Leaded Chip Carrier, 84-Leads, Body 29.3x29.3mm, Pitch 1.27mm, IPC Medium Density)
footprint PLCC84_L (Leaded Chip Carrier, 84-Leads, Body 29.3x29.3mm, Pitch 1.27mm, IPC High Density)
footprint PLCC84_M (Leaded Chip Carrier, 84-Leads, Body 29.3x29.3mm, Pitch 1.27mm, IPC Low Density)
3D model EPM7160S-PLCC84 (84-Pin Plastic J-Lead Chip Carrier (PLCC84))
signal-integrity model 7k (MAX 7000S)
part A pins: 4 IO (io), 5 IO (io), 8 IO (io), 9 IO (io), 10 IO (io), 11 IO (io)
part B pins: 12 IO (io), 15 IO (io), 16 IO (io), 17 IO (io), 18 IO (io)
part C pins: 20 IO (io), 21 IO (io), 22 IO (io), 24 IO (io), 25 IO (io)
part D pins: 27 IO (io), 28 IO (io), 29 IO (io), 30 IO (io), 31 IO (io), 33 IO (io)
part E pins: 34 IO (io), 35 IO (io), 36 IO (io), 37 IO (io), 40 IO (io), 41 IO (io)
part F pins: 44 IO (io), 45 IO (io), 48 IO (io), 49 IO (io), 50 IO (io), 51 IO (io)
part G pins: 52 IO (io), 54 IO (io), 55 IO (io), 56 IO (io), 57 IO (io), 58 IO (io)
part H pins: 60 IO (io), 61 IO (io), 63 IO (io), 64 IO (io), 65 IO (io)
part I pins: 67 IO (io), 68 IO (io), 69 IO (io), 70 IO (io), 73 IO (io)
part J pins: 74 IO (io), 75 IO (io), 76 IO (io), 77 IO (io), 80 IO (io), 81 IO (io)
part K pins: 1 INPUT/GLCRn (in), 2 INPUT/OE2/GCLK2 (in), 83 INPUT/GCLK1 (in), 84 INPUT/OE1 (in)
part L pins: 14 TDI/IO (io), 23 TMS/IO (io), 62 TCK/IO (io), 71 TDO/IO (io)
part M pins: 3 VCCINT (5.0 ONLY) (power), 13 VCCIO (3.3 V OR 5.0 V) (power), 26 VCCIO (3.3 V OR 5.0 V) (power), 38 VCCIO (3.3 V OR 5.0 V) (power), 43 VCCINT (5.0 ONLY) (power), 53 VCCIO (3.3 V OR 5.0 V) (power), 66 VCCIO (3.3 V OR 5.0 V) (power), 78 VCCIO (3.3 V OR 5.0 V) (power)
part N pins: 7 GND (power), 19 GND (power), 32 GND (power), 42 GND (power), 47 GND (power), 59 GND (power), 72 GND (power), 82 GND (power)
part O pins: 6 NC, 39 NC, 46 NC, 79 NC
part A text: BANK A
part B text: BANK B
part C text: BANK C
part D text: BANK D
part E text: BANK E
part F text: BANK F
part G text: BANK G
part H text: BANK H
part I text: BANK I
part J text: BANK J

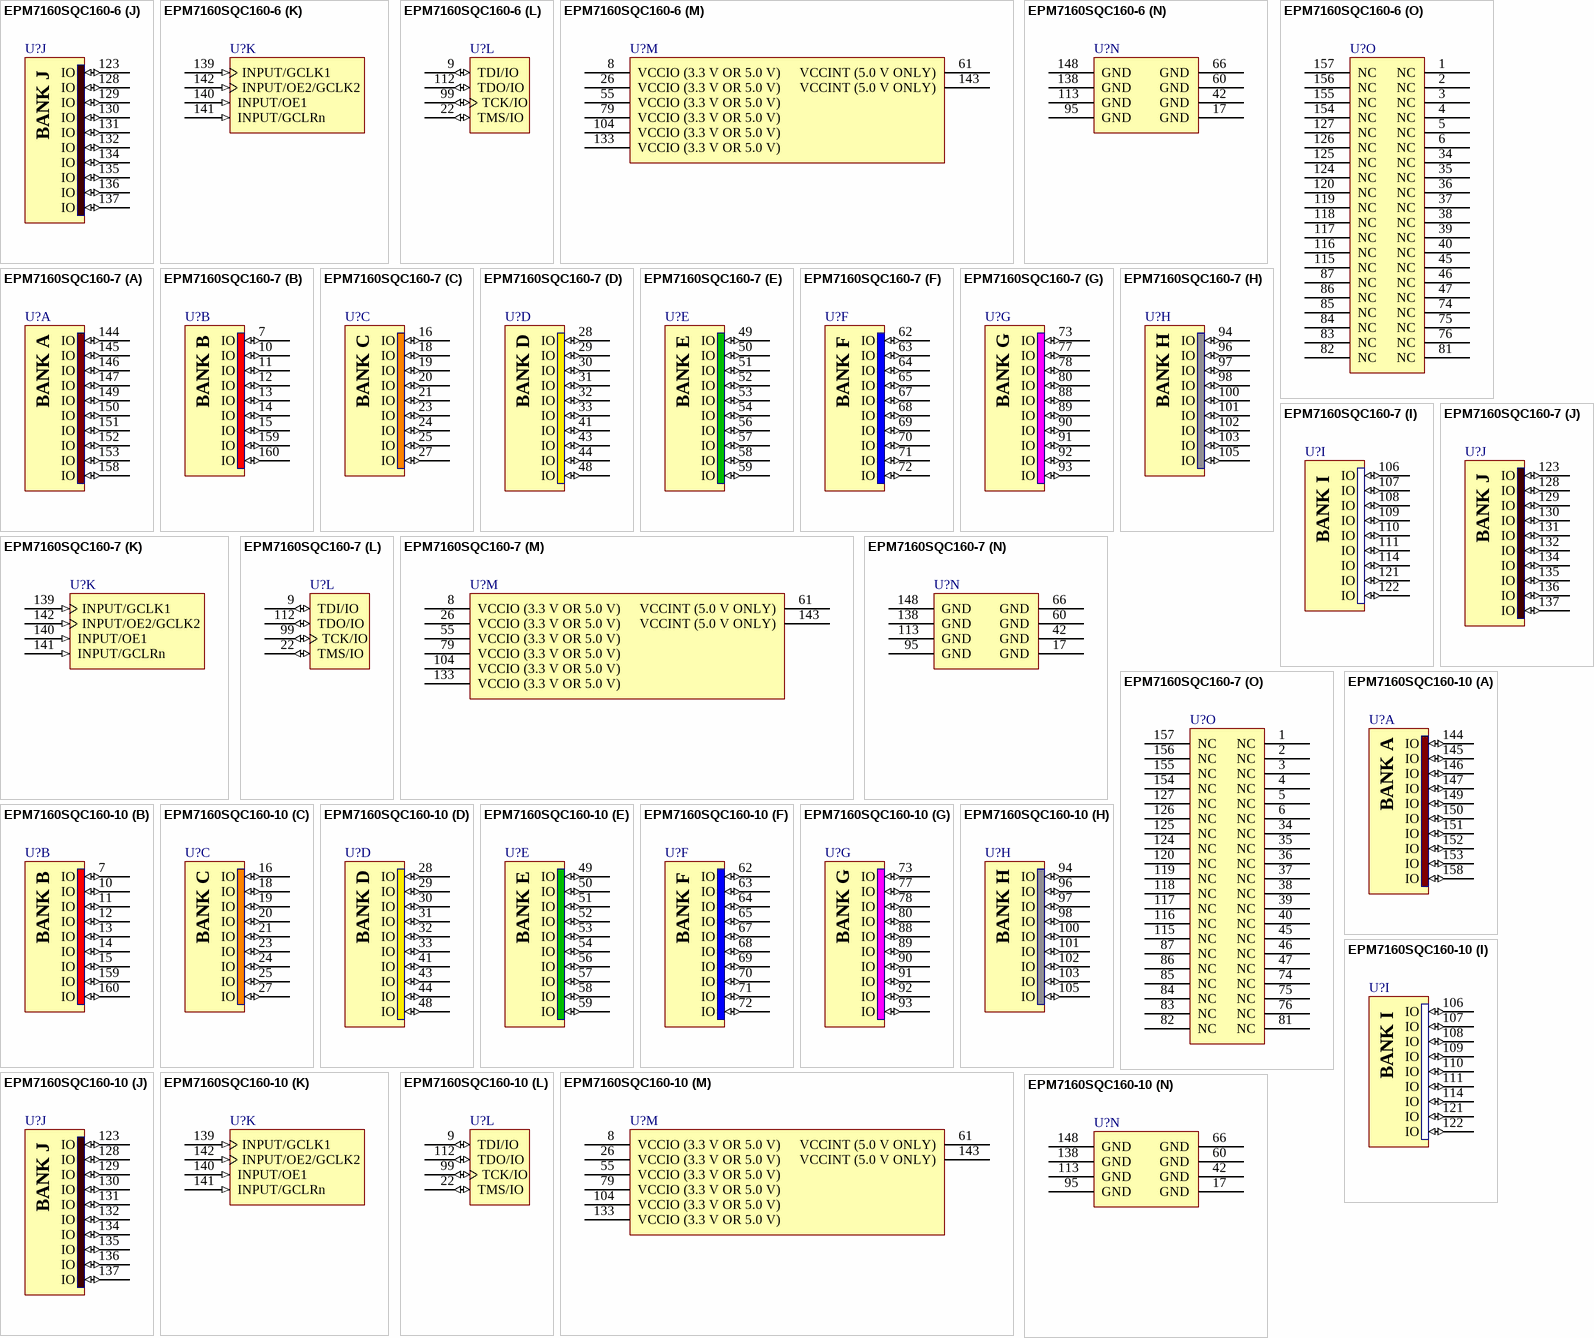
[diagram p71: symbols EPM7160SQC160-6 to EPM7160SQC160-10]

## EPM7160SQC160-6
designator U?
MAX 7000S 5V In-System Programmable CPLD, 160 Macrocells, 160-Pin PQFP, Speed Grade 6, Commercial Grade; Published: 17-Jul-2002; LatestRevisionDate: 13-Apr-2006; LatestRevisionNote: IPC-7351 Footprint Added.; DatasheetVersion: ver6.7, Sep-2005; PackageVersion: ver14.3, Jul-2006; PackageReference: PQFP160; Publisher: Altium Limited; PackageDescription: 160-Pin Plastic Quad Flat Pack (PFQP160); Supplier 1: Digi-Key; Supplier Part Number 1: EPM7160SQC160-6-ND; Code_JEDEC: MS-022-DD-1; Code_IPC: QFP65P3120X3120-160; ComponentLink1Description: Manufacturer Link; ComponentLink1URL: http://www.altera.com/products/devices/max7k/m7k-index.html; ComponentLink2Description: Datasheet; ComponentLink2URL: http://www.altera.com/literature/ds/m7000.pdf; ComponentLink3Description: Packaging Specification; ComponentLink3URL: http://www.altera.com/literature/ds/dspkg.pdf
footprint PQFP160_N (QFP, 160-Leads, Body 28x28mm, Pitch 0.65mm, IPC Medium Density)
footprint PQFP160_L (QFP, 160-Leads, Body 28x28mm, Pitch 0.65mm, IPC High Density)
footprint PQFP160_M (QFP, 160-Leads, Body 28x28mm, Pitch 0.65mm, IPC Low Density)
3D model EPM7160S-PQFP160 (160-Pin Plastic Quad Flat Pack (PFQP160))
signal-integrity model 7k (MAX 7000S)
part A pins: 144 IO (io), 145 IO (io), 146 IO (io), 147 IO (io), 149 IO (io), 150 IO (io), 151 IO (io), 152 IO (io), 153 IO (io), 158 IO (io)
part B pins: 7 IO (io), 10 IO (io), 11 IO (io), 12 IO (io), 13 IO (io), 14 IO (io), 15 IO (io), 159 IO (io), 160 IO (io)
part C pins: 16 IO (io), 18 IO (io), 19 IO (io), 20 IO (io), 21 IO (io), 23 IO (io), 24 IO (io), 25 IO (io), 27 IO (io)
part D pins: 28 IO (io), 29 IO (io), 30 IO (io), 31 IO (io), 32 IO (io), 33 IO (io), 41 IO (io), 43 IO (io), 44 IO (io), 48 IO (io)
part E pins: 49 IO (io), 50 IO (io), 51 IO (io), 52 IO (io), 53 IO (io), 54 IO (io), 56 IO (io), 57 IO (io), 58 IO (io), 59 IO (io)
part F pins: 62 IO (io), 63 IO (io), 64 IO (io), 65 IO (io), 67 IO (io), 68 IO (io), 69 IO (io), 70 IO (io), 71 IO (io), 72 IO (io)
part G pins: 73 IO (io), 77 IO (io), 78 IO (io), 80 IO (io), 88 IO (io), 89 IO (io), 90 IO (io), 91 IO (io), 92 IO (io), 93 IO (io)
part H pins: 94 IO (io), 96 IO (io), 97 IO (io), 98 IO (io), 100 IO (io), 101 IO (io), 102 IO (io), 103 IO (io), 105 IO (io)
part I pins: 106 IO (io), 107 IO (io), 108 IO (io), 109 IO (io), 110 IO (io), 111 IO (io), 114 IO (io), 121 IO (io), 122 IO (io)
part J pins: 123 IO (io), 128 IO (io), 129 IO (io), 130 IO (io), 131 IO (io), 132 IO (io), 134 IO (io), 135 IO (io), 136 IO (io), 137 IO (io)
part K pins: 139 INPUT/GCLK1 (in), 140 INPUT/OE1 (in), 141 INPUT/GCLRn (in), 142 INPUT/OE2/GCLK2 (in)
part L pins: 9 TDI/IO (io), 22 TMS/IO (io), 99 TCK/IO (io), 112 TDO/IO (io)
part M pins: 8 VCCIO (3.3 V OR 5.0 V) (power), 26 VCCIO (3.3 V OR 5.0 V) (power), 55 VCCIO (3.3 V OR 5.0 V) (power), 61 VCCINT (5.0 V ONLY) (power), 79 VCCIO (3.3 V OR 5.0 V) (power), 104 VCCIO (3.3 V OR 5.0 V) (power), 133 VCCIO (3.3 V OR 5.0 V) (power), 143 VCCINT (5.0 V ONLY) (power)
part N pins: 17 GND (power), 42 GND (power), 60 GND (power), 66 GND (power), 95 GND (power), 113 GND (power), 138 GND (power), 148 GND (power)
part O pins: 1 NC, 2 NC, 3 NC, 4 NC, 5 NC, 6 NC, 34 NC, 35 NC, 36 NC, 37 NC, 38 NC, 39 NC, 40 NC, 45 NC, 46 NC, 47 NC, 74 NC, 75 NC, 76 NC, 81 NC, 82 NC, 83 NC, 84 NC, 85 NC, 86 NC, 87 NC, 115 NC, 116 NC, 117 NC, 118 NC, 119 NC, 120 NC, 124 NC, 125 NC, 126 NC, 127 NC, 154 NC, 155 NC, 156 NC, 157 NC
part A text: BANK A
part B text: BANK B
part C text: BANK C
part D text: BANK D
part E text: BANK E
part F text: BANK F
part G text: BANK G
part H text: BANK H
part I text: BANK I
part J text: BANK J

## EPM7160SQC160-7
designator U?
MAX 7000S 5V In-System Programmable CPLD, 160 Macrocells, 160-Pin PQFP, Speed Grade 7, Commercial Grade; Published: 17-Jul-2002; LatestRevisionDate: 13-Apr-2006; LatestRevisionNote: IPC-7351 Footprint Added.; DatasheetVersion: ver6.7, Sep-2005; PackageVersion: ver14.3, Jul-2006; PackageReference: PQFP160; Publisher: Altium Limited; PackageDescription: 160-Pin Plastic Quad Flat Pack (PFQP160); Code_JEDEC: MS-022-DD-1; Code_IPC: QFP65P3120X3120-160; ComponentLink1Description: Manufacturer Link; ComponentLink1URL: http://www.altera.com/products/devices/max7k/m7k-index.html; ComponentLink2Description: Datasheet; ComponentLink2URL: http://www.altera.com/literature/ds/m7000.pdf; ComponentLink3Description: Packaging Specification; ComponentLink3URL: http://www.altera.com/literature/ds/dspkg.pdf
footprint PQFP160_N (QFP, 160-Leads, Body 28x28mm, Pitch 0.65mm, IPC Medium Density)
footprint PQFP160_L (QFP, 160-Leads, Body 28x28mm, Pitch 0.65mm, IPC High Density)
footprint PQFP160_M (QFP, 160-Leads, Body 28x28mm, Pitch 0.65mm, IPC Low Density)
3D model EPM7160S-PQFP160 (160-Pin Plastic Quad Flat Pack (PFQP160))
signal-integrity model 7k (MAX 7000S)
part A pins: 144 IO (io), 145 IO (io), 146 IO (io), 147 IO (io), 149 IO (io), 150 IO (io), 151 IO (io), 152 IO (io), 153 IO (io), 158 IO (io)
part B pins: 7 IO (io), 10 IO (io), 11 IO (io), 12 IO (io), 13 IO (io), 14 IO (io), 15 IO (io), 159 IO (io), 160 IO (io)
part C pins: 16 IO (io), 18 IO (io), 19 IO (io), 20 IO (io), 21 IO (io), 23 IO (io), 24 IO (io), 25 IO (io), 27 IO (io)
part D pins: 28 IO (io), 29 IO (io), 30 IO (io), 31 IO (io), 32 IO (io), 33 IO (io), 41 IO (io), 43 IO (io), 44 IO (io), 48 IO (io)
part E pins: 49 IO (io), 50 IO (io), 51 IO (io), 52 IO (io), 53 IO (io), 54 IO (io), 56 IO (io), 57 IO (io), 58 IO (io), 59 IO (io)
part F pins: 62 IO (io), 63 IO (io), 64 IO (io), 65 IO (io), 67 IO (io), 68 IO (io), 69 IO (io), 70 IO (io), 71 IO (io), 72 IO (io)
part G pins: 73 IO (io), 77 IO (io), 78 IO (io), 80 IO (io), 88 IO (io), 89 IO (io), 90 IO (io), 91 IO (io), 92 IO (io), 93 IO (io)
part H pins: 94 IO (io), 96 IO (io), 97 IO (io), 98 IO (io), 100 IO (io), 101 IO (io), 102 IO (io), 103 IO (io), 105 IO (io)
part I pins: 106 IO (io), 107 IO (io), 108 IO (io), 109 IO (io), 110 IO (io), 111 IO (io), 114 IO (io), 121 IO (io), 122 IO (io)
part J pins: 123 IO (io), 128 IO (io), 129 IO (io), 130 IO (io), 131 IO (io), 132 IO (io), 134 IO (io), 135 IO (io), 136 IO (io), 137 IO (io)
part K pins: 139 INPUT/GCLK1 (in), 140 INPUT/OE1 (in), 141 INPUT/GCLRn (in), 142 INPUT/OE2/GCLK2 (in)
part L pins: 9 TDI/IO (io), 22 TMS/IO (io), 99 TCK/IO (io), 112 TDO/IO (io)
part M pins: 8 VCCIO (3.3 V OR 5.0 V) (power), 26 VCCIO (3.3 V OR 5.0 V) (power), 55 VCCIO (3.3 V OR 5.0 V) (power), 61 VCCINT (5.0 V ONLY) (power), 79 VCCIO (3.3 V OR 5.0 V) (power), 104 VCCIO (3.3 V OR 5.0 V) (power), 133 VCCIO (3.3 V OR 5.0 V) (power), 143 VCCINT (5.0 V ONLY) (power)
part N pins: 17 GND (power), 42 GND (power), 60 GND (power), 66 GND (power), 95 GND (power), 113 GND (power), 138 GND (power), 148 GND (power)
part O pins: 1 NC, 2 NC, 3 NC, 4 NC, 5 NC, 6 NC, 34 NC, 35 NC, 36 NC, 37 NC, 38 NC, 39 NC, 40 NC, 45 NC, 46 NC, 47 NC, 74 NC, 75 NC, 76 NC, 81 NC, 82 NC, 83 NC, 84 NC, 85 NC, 86 NC, 87 NC, 115 NC, 116 NC, 117 NC, 118 NC, 119 NC, 120 NC, 124 NC, 125 NC, 126 NC, 127 NC, 154 NC, 155 NC, 156 NC, 157 NC
part A text: BANK A
part B text: BANK B
part C text: BANK C
part D text: BANK D
part E text: BANK E
part F text: BANK F
part G text: BANK G
part H text: BANK H
part I text: BANK I
part J text: BANK J

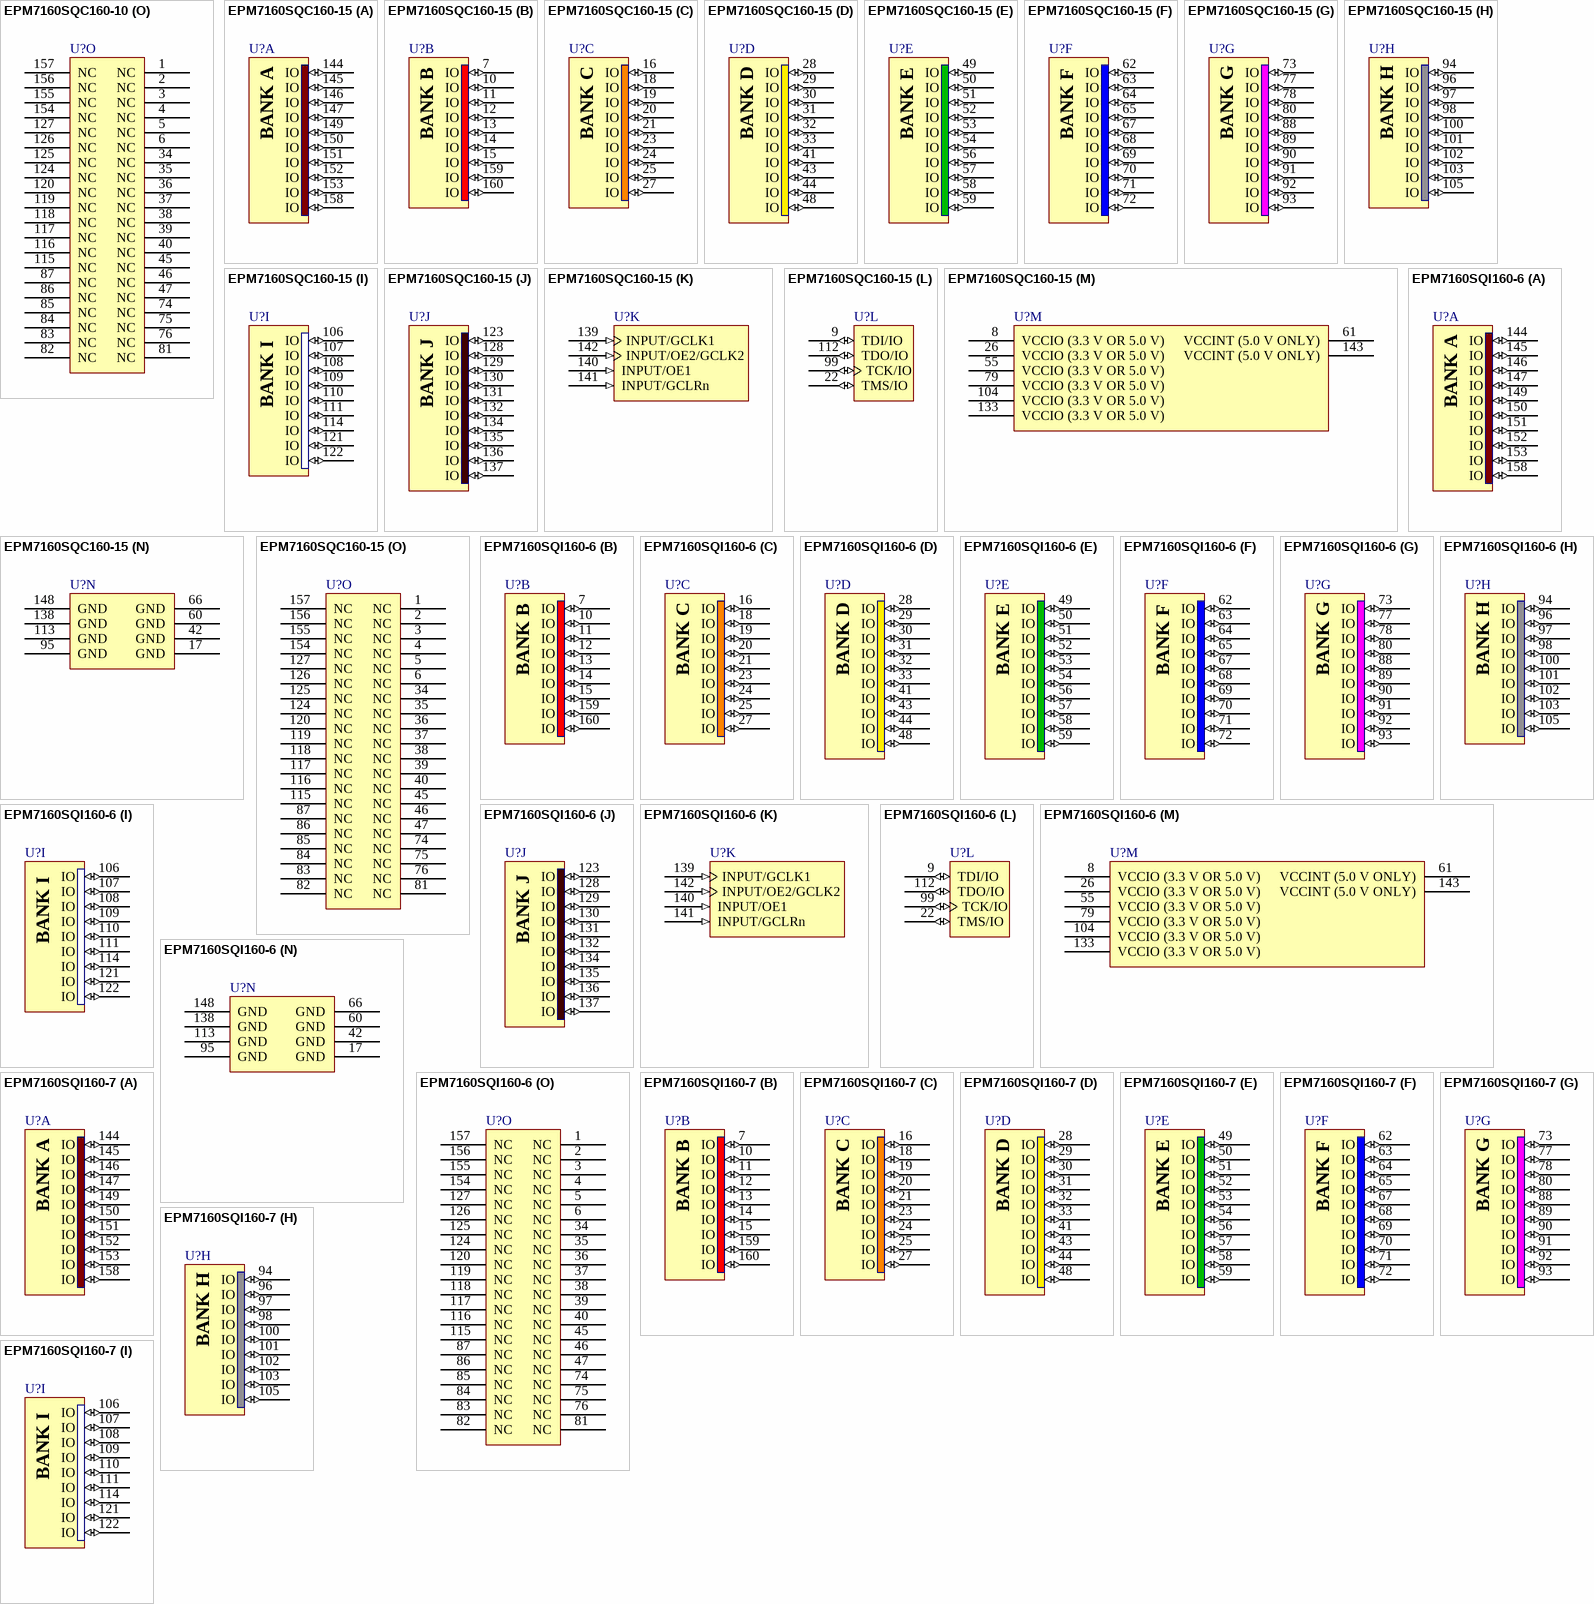
[diagram p72: symbols EPM7160SQC160-10 to EPM7160SQI160-7]

## EPM7160SQC160-10
designator U?
MAX 7000S 5V In-System Programmable CPLD, 160 Macrocells, 160-Pin PQFP, Speed Grade 10, Commercial Grade; Published: 17-Jul-2002; LatestRevisionDate: 13-Apr-2006; LatestRevisionNote: IPC-7351 Footprint Added.; DatasheetVersion: ver6.7, Sep-2005; PackageVersion: ver14.3, Jul-2006; PackageReference: PQFP160; Publisher: Altium Limited; PackageDescription: 160-Pin Plastic Quad Flat Pack (PFQP160); Supplier 1: Digi-Key; Supplier Part Number 1: 544-2049-ND; Code_JEDEC: MS-022-DD-1; Code_IPC: QFP65P3120X3120-160; ComponentLink1Description: Manufacturer Link; ComponentLink1URL: http://www.altera.com/products/devices/max7k/m7k-index.html; ComponentLink2Description: Datasheet; ComponentLink2URL: http://www.altera.com/literature/ds/m7000.pdf; ComponentLink3Description: Packaging Specification; ComponentLink3URL: http://www.altera.com/literature/ds/dspkg.pdf
footprint PQFP160_N (QFP, 160-Leads, Body 28x28mm, Pitch 0.65mm, IPC Medium Density)
footprint PQFP160_L (QFP, 160-Leads, Body 28x28mm, Pitch 0.65mm, IPC High Density)
footprint PQFP160_M (QFP, 160-Leads, Body 28x28mm, Pitch 0.65mm, IPC Low Density)
3D model EPM7160S-PQFP160 (160-Pin Plastic Quad Flat Pack (PFQP160))
signal-integrity model 7k (MAX 7000S)
part A pins: 144 IO (io), 145 IO (io), 146 IO (io), 147 IO (io), 149 IO (io), 150 IO (io), 151 IO (io), 152 IO (io), 153 IO (io), 158 IO (io)
part B pins: 7 IO (io), 10 IO (io), 11 IO (io), 12 IO (io), 13 IO (io), 14 IO (io), 15 IO (io), 159 IO (io), 160 IO (io)
part C pins: 16 IO (io), 18 IO (io), 19 IO (io), 20 IO (io), 21 IO (io), 23 IO (io), 24 IO (io), 25 IO (io), 27 IO (io)
part D pins: 28 IO (io), 29 IO (io), 30 IO (io), 31 IO (io), 32 IO (io), 33 IO (io), 41 IO (io), 43 IO (io), 44 IO (io), 48 IO (io)
part E pins: 49 IO (io), 50 IO (io), 51 IO (io), 52 IO (io), 53 IO (io), 54 IO (io), 56 IO (io), 57 IO (io), 58 IO (io), 59 IO (io)
part F pins: 62 IO (io), 63 IO (io), 64 IO (io), 65 IO (io), 67 IO (io), 68 IO (io), 69 IO (io), 70 IO (io), 71 IO (io), 72 IO (io)
part G pins: 73 IO (io), 77 IO (io), 78 IO (io), 80 IO (io), 88 IO (io), 89 IO (io), 90 IO (io), 91 IO (io), 92 IO (io), 93 IO (io)
part H pins: 94 IO (io), 96 IO (io), 97 IO (io), 98 IO (io), 100 IO (io), 101 IO (io), 102 IO (io), 103 IO (io), 105 IO (io)
part I pins: 106 IO (io), 107 IO (io), 108 IO (io), 109 IO (io), 110 IO (io), 111 IO (io), 114 IO (io), 121 IO (io), 122 IO (io)
part J pins: 123 IO (io), 128 IO (io), 129 IO (io), 130 IO (io), 131 IO (io), 132 IO (io), 134 IO (io), 135 IO (io), 136 IO (io), 137 IO (io)
part K pins: 139 INPUT/GCLK1 (in), 140 INPUT/OE1 (in), 141 INPUT/GCLRn (in), 142 INPUT/OE2/GCLK2 (in)
part L pins: 9 TDI/IO (io), 22 TMS/IO (io), 99 TCK/IO (io), 112 TDO/IO (io)
part M pins: 8 VCCIO (3.3 V OR 5.0 V) (power), 26 VCCIO (3.3 V OR 5.0 V) (power), 55 VCCIO (3.3 V OR 5.0 V) (power), 61 VCCINT (5.0 V ONLY) (power), 79 VCCIO (3.3 V OR 5.0 V) (power), 104 VCCIO (3.3 V OR 5.0 V) (power), 133 VCCIO (3.3 V OR 5.0 V) (power), 143 VCCINT (5.0 V ONLY) (power)
part N pins: 17 GND (power), 42 GND (power), 60 GND (power), 66 GND (power), 95 GND (power), 113 GND (power), 138 GND (power), 148 GND (power)
part O pins: 1 NC, 2 NC, 3 NC, 4 NC, 5 NC, 6 NC, 34 NC, 35 NC, 36 NC, 37 NC, 38 NC, 39 NC, 40 NC, 45 NC, 46 NC, 47 NC, 74 NC, 75 NC, 76 NC, 81 NC, 82 NC, 83 NC, 84 NC, 85 NC, 86 NC, 87 NC, 115 NC, 116 NC, 117 NC, 118 NC, 119 NC, 120 NC, 124 NC, 125 NC, 126 NC, 127 NC, 154 NC, 155 NC, 156 NC, 157 NC
part A text: BANK A
part B text: BANK B
part C text: BANK C
part D text: BANK D
part E text: BANK E
part F text: BANK F
part G text: BANK G
part H text: BANK H
part I text: BANK I
part J text: BANK J

## EPM7160SQC160-15
designator U?
MAX 7000S 5V In-System Programmable CPLD, 160 Macrocells, 160-Pin PQFP, Speed Grade 15, Commercial Grade; Published: 17-Sep-2003; LatestRevisionDate: 13-Apr-2006; LatestRevisionNote: IPC-7351 Footprint Added.; DatasheetVersion: ver6.7, Sep-2005; PackageVersion: ver14.3, Jul-2006; PackageReference: PQFP160; Publisher: Altium Limited; PackageDescription: 160-Pin Plastic Quad Flat Pack (PFQP160); Code_JEDEC: MS-022-DD-1; Code_IPC: QFP65P3120X3120-160; ComponentLink1Description: Manufacturer Link; ComponentLink1URL: http://www.altera.com/products/devices/max7k/m7k-index.html; ComponentLink2Description: Datasheet; ComponentLink2URL: http://www.altera.com/literature/ds/m7000.pdf; ComponentLink3Description: Packaging Specification; ComponentLink3URL: http://www.altera.com/literature/ds/dspkg.pdf
footprint PQFP160_N (QFP, 160-Leads, Body 28x28mm, Pitch 0.65mm, IPC Medium Density)
footprint PQFP160_L (QFP, 160-Leads, Body 28x28mm, Pitch 0.65mm, IPC High Density)
footprint PQFP160_M (QFP, 160-Leads, Body 28x28mm, Pitch 0.65mm, IPC Low Density)
3D model EPM7160S-PQFP160 (160-Pin Plastic Quad Flat Pack (PFQP160))
signal-integrity model 7k (MAX 7000S)
part A pins: 144 IO (io), 145 IO (io), 146 IO (io), 147 IO (io), 149 IO (io), 150 IO (io), 151 IO (io), 152 IO (io), 153 IO (io), 158 IO (io)
part B pins: 7 IO (io), 10 IO (io), 11 IO (io), 12 IO (io), 13 IO (io), 14 IO (io), 15 IO (io), 159 IO (io), 160 IO (io)
part C pins: 16 IO (io), 18 IO (io), 19 IO (io), 20 IO (io), 21 IO (io), 23 IO (io), 24 IO (io), 25 IO (io), 27 IO (io)
part D pins: 28 IO (io), 29 IO (io), 30 IO (io), 31 IO (io), 32 IO (io), 33 IO (io), 41 IO (io), 43 IO (io), 44 IO (io), 48 IO (io)
part E pins: 49 IO (io), 50 IO (io), 51 IO (io), 52 IO (io), 53 IO (io), 54 IO (io), 56 IO (io), 57 IO (io), 58 IO (io), 59 IO (io)
part F pins: 62 IO (io), 63 IO (io), 64 IO (io), 65 IO (io), 67 IO (io), 68 IO (io), 69 IO (io), 70 IO (io), 71 IO (io), 72 IO (io)
part G pins: 73 IO (io), 77 IO (io), 78 IO (io), 80 IO (io), 88 IO (io), 89 IO (io), 90 IO (io), 91 IO (io), 92 IO (io), 93 IO (io)
part H pins: 94 IO (io), 96 IO (io), 97 IO (io), 98 IO (io), 100 IO (io), 101 IO (io), 102 IO (io), 103 IO (io), 105 IO (io)
part I pins: 106 IO (io), 107 IO (io), 108 IO (io), 109 IO (io), 110 IO (io), 111 IO (io), 114 IO (io), 121 IO (io), 122 IO (io)
part J pins: 123 IO (io), 128 IO (io), 129 IO (io), 130 IO (io), 131 IO (io), 132 IO (io), 134 IO (io), 135 IO (io), 136 IO (io), 137 IO (io)
part K pins: 139 INPUT/GCLK1 (in), 140 INPUT/OE1 (in), 141 INPUT/GCLRn (in), 142 INPUT/OE2/GCLK2 (in)
part L pins: 9 TDI/IO (io), 22 TMS/IO (io), 99 TCK/IO (io), 112 TDO/IO (io)
part M pins: 8 VCCIO (3.3 V OR 5.0 V) (power), 26 VCCIO (3.3 V OR 5.0 V) (power), 55 VCCIO (3.3 V OR 5.0 V) (power), 61 VCCINT (5.0 V ONLY) (power), 79 VCCIO (3.3 V OR 5.0 V) (power), 104 VCCIO (3.3 V OR 5.0 V) (power), 133 VCCIO (3.3 V OR 5.0 V) (power), 143 VCCINT (5.0 V ONLY) (power)
part N pins: 17 GND (power), 42 GND (power), 60 GND (power), 66 GND (power), 95 GND (power), 113 GND (power), 138 GND (power), 148 GND (power)
part O pins: 1 NC, 2 NC, 3 NC, 4 NC, 5 NC, 6 NC, 34 NC, 35 NC, 36 NC, 37 NC, 38 NC, 39 NC, 40 NC, 45 NC, 46 NC, 47 NC, 74 NC, 75 NC, 76 NC, 81 NC, 82 NC, 83 NC, 84 NC, 85 NC, 86 NC, 87 NC, 115 NC, 116 NC, 117 NC, 118 NC, 119 NC, 120 NC, 124 NC, 125 NC, 126 NC, 127 NC, 154 NC, 155 NC, 156 NC, 157 NC
part A text: BANK A
part B text: BANK B
part C text: BANK C
part D text: BANK D
part E text: BANK E
part F text: BANK F
part G text: BANK G
part H text: BANK H
part I text: BANK I
part J text: BANK J

## EPM7160SQI160-6
designator U?
MAX 7000S 5V In-System Programmable CPLD, 160 Macrocells, 160-Pin PQFP, Speed Grade 6, Industrial Grade; Published: 17-Sep-2003; LatestRevisionDate: 13-Apr-2006; LatestRevisionNote: IPC-7351 Footprint Added.; DatasheetVersion: ver6.7, Sep-2005; PackageVersion: ver14.3, Jul-2006; PackageReference: PQFP160; Publisher: Altium Limited; PackageDescription: 160-Pin Plastic Quad Flat Pack (PFQP160); Code_JEDEC: MS-022-DD-1; Code_IPC: QFP65P3120X3120-160; ComponentLink1Description: Manufacturer Link; ComponentLink1URL: http://www.altera.com/products/devices/max7k/m7k-index.html; ComponentLink2Description: Datasheet; ComponentLink2URL: http://www.altera.com/literature/ds/m7000.pdf; ComponentLink3Description: Packaging Specification; ComponentLink3URL: http://www.altera.com/literature/ds/dspkg.pdf
footprint PQFP160_N (QFP, 160-Leads, Body 28x28mm, Pitch 0.65mm, IPC Medium Density)
footprint PQFP160_L (QFP, 160-Leads, Body 28x28mm, Pitch 0.65mm, IPC High Density)
footprint PQFP160_M (QFP, 160-Leads, Body 28x28mm, Pitch 0.65mm, IPC Low Density)
3D model EPM7160S-PQFP160 (160-Pin Plastic Quad Flat Pack (PFQP160))
signal-integrity model 7k (MAX 7000S)
part A pins: 144 IO (io), 145 IO (io), 146 IO (io), 147 IO (io), 149 IO (io), 150 IO (io), 151 IO (io), 152 IO (io), 153 IO (io), 158 IO (io)
part B pins: 7 IO (io), 10 IO (io), 11 IO (io), 12 IO (io), 13 IO (io), 14 IO (io), 15 IO (io), 159 IO (io), 160 IO (io)
part C pins: 16 IO (io), 18 IO (io), 19 IO (io), 20 IO (io), 21 IO (io), 23 IO (io), 24 IO (io), 25 IO (io), 27 IO (io)
part D pins: 28 IO (io), 29 IO (io), 30 IO (io), 31 IO (io), 32 IO (io), 33 IO (io), 41 IO (io), 43 IO (io), 44 IO (io), 48 IO (io)
part E pins: 49 IO (io), 50 IO (io), 51 IO (io), 52 IO (io), 53 IO (io), 54 IO (io), 56 IO (io), 57 IO (io), 58 IO (io), 59 IO (io)
part F pins: 62 IO (io), 63 IO (io), 64 IO (io), 65 IO (io), 67 IO (io), 68 IO (io), 69 IO (io), 70 IO (io), 71 IO (io), 72 IO (io)
part G pins: 73 IO (io), 77 IO (io), 78 IO (io), 80 IO (io), 88 IO (io), 89 IO (io), 90 IO (io), 91 IO (io), 92 IO (io), 93 IO (io)
part H pins: 94 IO (io), 96 IO (io), 97 IO (io), 98 IO (io), 100 IO (io), 101 IO (io), 102 IO (io), 103 IO (io), 105 IO (io)
part I pins: 106 IO (io), 107 IO (io), 108 IO (io), 109 IO (io), 110 IO (io), 111 IO (io), 114 IO (io), 121 IO (io), 122 IO (io)
part J pins: 123 IO (io), 128 IO (io), 129 IO (io), 130 IO (io), 131 IO (io), 132 IO (io), 134 IO (io), 135 IO (io), 136 IO (io), 137 IO (io)
part K pins: 139 INPUT/GCLK1 (in), 140 INPUT/OE1 (in), 141 INPUT/GCLRn (in), 142 INPUT/OE2/GCLK2 (in)
part L pins: 9 TDI/IO (io), 22 TMS/IO (io), 99 TCK/IO (io), 112 TDO/IO (io)
part M pins: 8 VCCIO (3.3 V OR 5.0 V) (power), 26 VCCIO (3.3 V OR 5.0 V) (power), 55 VCCIO (3.3 V OR 5.0 V) (power), 61 VCCINT (5.0 V ONLY) (power), 79 VCCIO (3.3 V OR 5.0 V) (power), 104 VCCIO (3.3 V OR 5.0 V) (power), 133 VCCIO (3.3 V OR 5.0 V) (power), 143 VCCINT (5.0 V ONLY) (power)
part N pins: 17 GND (power), 42 GND (power), 60 GND (power), 66 GND (power), 95 GND (power), 113 GND (power), 138 GND (power), 148 GND (power)
part O pins: 1 NC, 2 NC, 3 NC, 4 NC, 5 NC, 6 NC, 34 NC, 35 NC, 36 NC, 37 NC, 38 NC, 39 NC, 40 NC, 45 NC, 46 NC, 47 NC, 74 NC, 75 NC, 76 NC, 81 NC, 82 NC, 83 NC, 84 NC, 85 NC, 86 NC, 87 NC, 115 NC, 116 NC, 117 NC, 118 NC, 119 NC, 120 NC, 124 NC, 125 NC, 126 NC, 127 NC, 154 NC, 155 NC, 156 NC, 157 NC
part A text: BANK A
part B text: BANK B
part C text: BANK C
part D text: BANK D
part E text: BANK E
part F text: BANK F
part G text: BANK G
part H text: BANK H
part I text: BANK I
part J text: BANK J

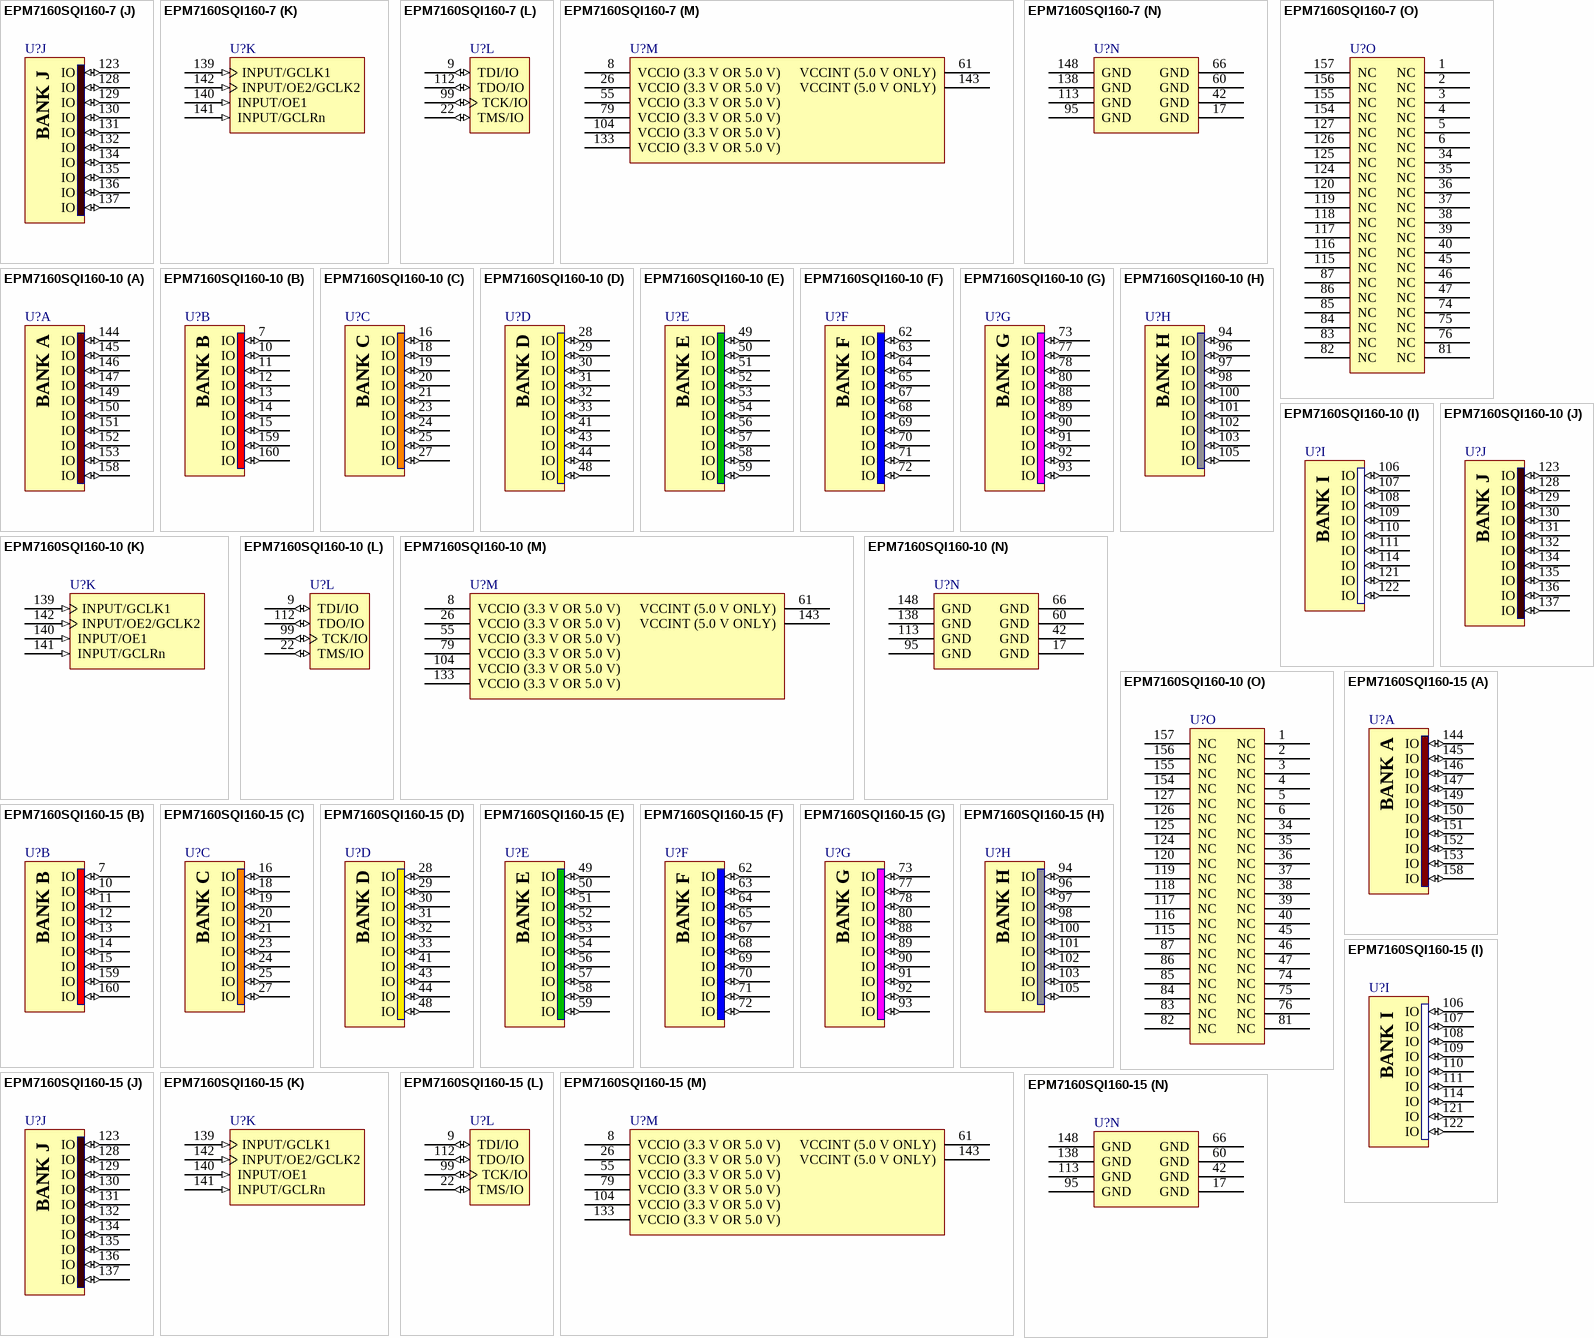
[diagram p73: symbols EPM7160SQI160-7 to EPM7160SQI160-15]

## EPM7160SQI160-7
designator U?
MAX 7000S 5V In-System Programmable CPLD, 160 Macrocells, 160-Pin PQFP, Speed Grade 7, Industrial Grade; Published: 17-Sep-2003; LatestRevisionDate: 13-Apr-2006; LatestRevisionNote: IPC-7351 Footprint Added.; DatasheetVersion: ver6.7, Sep-2005; PackageVersion: ver14.3, Jul-2006; PackageReference: PQFP160; Publisher: Altium Limited; PackageDescription: 160-Pin Plastic Quad Flat Pack (PFQP160); Code_JEDEC: MS-022-DD-1; Code_IPC: QFP65P3120X3120-160; ComponentLink1Description: Manufacturer Link; ComponentLink1URL: http://www.altera.com/products/devices/max7k/m7k-index.html; ComponentLink2Description: Datasheet; ComponentLink2URL: http://www.altera.com/literature/ds/m7000.pdf; ComponentLink3Description: Packaging Specification; ComponentLink3URL: http://www.altera.com/literature/ds/dspkg.pdf
footprint PQFP160_N (QFP, 160-Leads, Body 28x28mm, Pitch 0.65mm, IPC Medium Density)
footprint PQFP160_L (QFP, 160-Leads, Body 28x28mm, Pitch 0.65mm, IPC High Density)
footprint PQFP160_M (QFP, 160-Leads, Body 28x28mm, Pitch 0.65mm, IPC Low Density)
3D model EPM7160S-PQFP160 (160-Pin Plastic Quad Flat Pack (PFQP160))
signal-integrity model 7k (MAX 7000S)
part A pins: 144 IO (io), 145 IO (io), 146 IO (io), 147 IO (io), 149 IO (io), 150 IO (io), 151 IO (io), 152 IO (io), 153 IO (io), 158 IO (io)
part B pins: 7 IO (io), 10 IO (io), 11 IO (io), 12 IO (io), 13 IO (io), 14 IO (io), 15 IO (io), 159 IO (io), 160 IO (io)
part C pins: 16 IO (io), 18 IO (io), 19 IO (io), 20 IO (io), 21 IO (io), 23 IO (io), 24 IO (io), 25 IO (io), 27 IO (io)
part D pins: 28 IO (io), 29 IO (io), 30 IO (io), 31 IO (io), 32 IO (io), 33 IO (io), 41 IO (io), 43 IO (io), 44 IO (io), 48 IO (io)
part E pins: 49 IO (io), 50 IO (io), 51 IO (io), 52 IO (io), 53 IO (io), 54 IO (io), 56 IO (io), 57 IO (io), 58 IO (io), 59 IO (io)
part F pins: 62 IO (io), 63 IO (io), 64 IO (io), 65 IO (io), 67 IO (io), 68 IO (io), 69 IO (io), 70 IO (io), 71 IO (io), 72 IO (io)
part G pins: 73 IO (io), 77 IO (io), 78 IO (io), 80 IO (io), 88 IO (io), 89 IO (io), 90 IO (io), 91 IO (io), 92 IO (io), 93 IO (io)
part H pins: 94 IO (io), 96 IO (io), 97 IO (io), 98 IO (io), 100 IO (io), 101 IO (io), 102 IO (io), 103 IO (io), 105 IO (io)
part I pins: 106 IO (io), 107 IO (io), 108 IO (io), 109 IO (io), 110 IO (io), 111 IO (io), 114 IO (io), 121 IO (io), 122 IO (io)
part J pins: 123 IO (io), 128 IO (io), 129 IO (io), 130 IO (io), 131 IO (io), 132 IO (io), 134 IO (io), 135 IO (io), 136 IO (io), 137 IO (io)
part K pins: 139 INPUT/GCLK1 (in), 140 INPUT/OE1 (in), 141 INPUT/GCLRn (in), 142 INPUT/OE2/GCLK2 (in)
part L pins: 9 TDI/IO (io), 22 TMS/IO (io), 99 TCK/IO (io), 112 TDO/IO (io)
part M pins: 8 VCCIO (3.3 V OR 5.0 V) (power), 26 VCCIO (3.3 V OR 5.0 V) (power), 55 VCCIO (3.3 V OR 5.0 V) (power), 61 VCCINT (5.0 V ONLY) (power), 79 VCCIO (3.3 V OR 5.0 V) (power), 104 VCCIO (3.3 V OR 5.0 V) (power), 133 VCCIO (3.3 V OR 5.0 V) (power), 143 VCCINT (5.0 V ONLY) (power)
part N pins: 17 GND (power), 42 GND (power), 60 GND (power), 66 GND (power), 95 GND (power), 113 GND (power), 138 GND (power), 148 GND (power)
part O pins: 1 NC, 2 NC, 3 NC, 4 NC, 5 NC, 6 NC, 34 NC, 35 NC, 36 NC, 37 NC, 38 NC, 39 NC, 40 NC, 45 NC, 46 NC, 47 NC, 74 NC, 75 NC, 76 NC, 81 NC, 82 NC, 83 NC, 84 NC, 85 NC, 86 NC, 87 NC, 115 NC, 116 NC, 117 NC, 118 NC, 119 NC, 120 NC, 124 NC, 125 NC, 126 NC, 127 NC, 154 NC, 155 NC, 156 NC, 157 NC
part A text: BANK A
part B text: BANK B
part C text: BANK C
part D text: BANK D
part E text: BANK E
part F text: BANK F
part G text: BANK G
part H text: BANK H
part I text: BANK I
part J text: BANK J